# Altium integrated library Lattice ORCA Series 3.IntLib: 93 symbols (part 9 of 14)
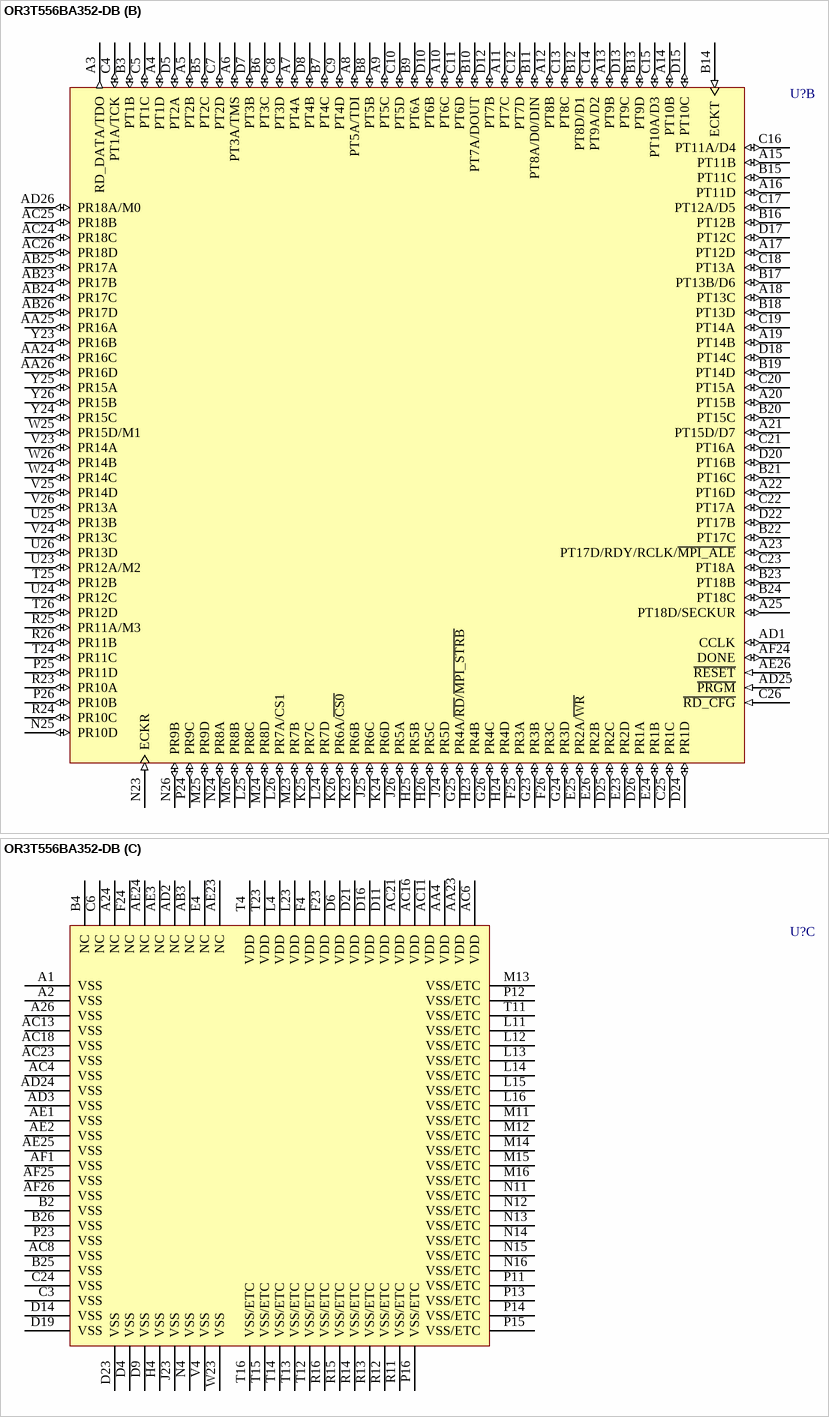
[diagram p144: symbol OR3T556BA352-DB]

## OR3T556BA352-DB
designator U?
ORCA Series 3T FPGA: 3.3 V, Commercial Grade, 292 I/Os.; PinConnectionRecommendation: Ground array of 'VSS-ETC' pins for enhanced thermal capability or leave unconnected.; Published: 21-May-2003; LatestRevisionDate: 13-Apr-2006; LatestRevisionNote: IPC-7351 Footprint Added.; DatasheetVersion: Dec-2002; PackageVersion: pkg_32, Aug-2005; PackageReference: BGA388; Publisher: Altium Limited; PackageDescription: 388-Ball Ball Grid Array (BGA388); ComponentLink1Description: Manufacturer Link; ComponentLink1URL: http://www.latticesemi.com/products/fpga/orca/orca3/index.cfm; ComponentLink2Description: Datasheet; ComponentLink2URL: http://www.latticesemi.com/account/_download.cfm?AMID=3974; ComponentLink3Description: Lattice Login; ComponentLink3URL: http://www.latticesemi.com/account/login.cfm
footprint BGA388 (BGA, 388-Leads, Body 35x35mm, Pitch 1.27mm)
3D model OR3T55-BGA388 (388-Ball Ball Grid Array (BGA388))
part A pins: AA1 PL16A (io), AA2 PL16C (io), AA3 PL17A (io), AB1 PL17B (io), AB2 PL17C (io), AB4 PL18C/SECKLL (io), AC1 PL18B (io), AC2 PL18D (io), AC3 PL18A/A15 (io), AC5 PB2C (io), AC7 PB3C (io), AC9 PB5B (io), AC10 PB7B (io), AC12 PB9B (io), AC14 PB10B (io), AC15 PB12C (io), AC17 PB13C (io), AC19 PB15C (io), AC20 PB16C (io), AC22 PB18A (io), AD4 PB1D (io), AD5 PB2D (io), AD6 PB3D/A17 (io), AD7 PB4D (io), AD8 PB5D (io), AD9 PB6D (io), AD10 PB7D (io), AD11 PB8D (io), AD12 PB9D (io), AD13 PB10D (io), AD14 PB11B (io), AD15 PB12A/HDC (io), AD16 PB13A/~{LDC} (io), AD17 PB14A (io), AD18 PB15A/~{INIT} (io), AD19 PB16A (io), AD20 PB17A (io), AD21 PB17D (io), AD22 PB18C (io), AD23 PB18D (io), AE4 PB1C (io), AE5 PB2B (io), AE6 PB3B (io), AE7 PB4B (io), AE8 PB5A (io), AE9 PB6A (io), AE10 PB6C (io), AE11 PB7C (io), AE12 PB8B (io), AE13 PB9A (io), AE14 ECKB (in), AE15 PB11A (io), AE16 PB11D (io), AE17 PB12D (io), AE18 PB13D (io), AE19 PB14C (io), AE20 PB15B (io), AE21 PB16B (io), AE22 PB17B (io), AF2 PB1A/A16 (io), AF3 PB1B (io), AF4 PB2A (io), AF5 PB3A (io), AF6 PB4A (io), AF7 PB4C (io), AF8 PB5C (io), AF9 PB6B (io), AF10 PB7A (io), AF11 PB8A (io), AF12 PB8C (io), AF13 PB9C (io), AF14 PB10C (io), AF15 PB11C (io), AF16 PB12B (io), AF17 PB13B (io), AF18 PB14B (io), AF19 PB14D (io), AF20 PB15D (io), AF21 PB16D (io), AF22 PB17C (io), AF23 PB18B (io), B1 PL1D (io), C1 PL1B (io), C2 PL1C (io), D1 PL2C (io), D2 PL1A (io), D3 PL2D/A0/~{MPI_BE0} (io), E1 PL3D (io), E2 PL2B (io), E3 PL2A (io), F1 PL4D (io), F2 PL3C (io), F3 PL3A (io), G1 PL4B (io), G2 PL4C (io), G3 PL4A/A1/~{MPI_BE1} (io), G4 PL3B (io), H1 PL5B (io), H2 PL5D (io), H3 PL5A/A2 (io), J1 PL6C (io), J2 PL6D (io), J3 PL6A/A3 (io), J4 PL5C (io), K1 PL7D (io), K2 PL6B (io), K3 PL7A/A4 (io), K4 PL7C (io), L1 PL8D/A5 (io), L2 PL7B (io), L3 PL8A/A6 (io), M1 PL8B (io), M2 PL8C (io), M3 PL9A/A7/MPI_CLK (io), M4 PL9C (io), N1 PL9B (io), N2 ECKL (in), N3 PL10A/A8/MPI_RW (io), P1 PL10B (io), P2 PL10D (io), P3 PL11C (io), P4 PL10C (io), R1 PL11B (io), R2 PL11D/A9/~{MPI_ACK} (io), R3 PL12D (io), R4 PL12B (io), T1 PL12C (io), T2 PL11A/A10/~{MPI_BI} (io), T3 PL13D/A12 (io), U1 PL13C (io), U2 PL12A/A11/~{MPI_IRQ} (io), U3 PL14D (io), U4 PL13B (io), V1 PL14C (io), V2 PL13A (io), V3 PL15D (io), W1 PL14A (io), W2 PL14B/A13 (io), W3 PL16D/A14 (io), W4 PL15B (io), Y1 PL15A (io), Y2 PL15C (io), Y3 PL17D (io), Y4 PL16B (io)
part B pins: A3 RD_DATA/TDO (out), A4 PT1D (io), A5 PT2B (io), A6 PT3A/TMS (io), A7 PT4A (io), A8 PT5A/TDI (io), A9 PT5C (io), A10 PT6C (io), A11 PT7C (io), A12 PT8B (io), A13 PT9B (io), A14 PT10B (io), A15 PT11B (io), A16 PT11D (io), A17 PT12D (io), A18 PT13C (io), A19 PT14B (io), A20 PT15B (io), A21 PT15D/D7 (io), A22 PT16D (io), A23 PT17D/RDY/RCLK/~{MPI_ALE} (io), A25 PT18D/SECKUR (io), AA24 PR16C (io), AA25 PR16A (io), AA26 PR16D (io), AB23 PR17B (io), AB24 PR17C (io), AB25 PR17A (io), AB26 PR17D (io), AC24 PR18C (io), AC25 PR18B (io), AC26 PR18D (io), AD1 CCLK (io), AD25 ~{PRGM} (in), AD26 PR18A/M0 (io), AE26 ~{RESET} (in), AF24 DONE (io), B3 PT1B (io), B5 PT2C (io), B6 PT3C (io), B7 PT4C (io), B8 PT5B (io), B9 PT6A (io), B10 PT7A/DOUT (io), B11 PT8A/D0/DIN (io), B12 PT8D/D1 (io), B13 PT9D (io), B14 ECKT (in), B15 PT11C (io), B16 PT12B (io), B17 PT13B/D6 (io), B18 PT13D (io), B19 PT14D (io), B20 PT15C (io), B21 PT16C (io), B22 PT17C (io), B23 PT18B (io), B24 PT18C (io), C4 PT1A/TCK (io), C5 PT1C (io), C7 PT2D (io), C8 PT3D (io), C9 PT4D (io), C10 PT5D (io), C11 PT6D (io), C12 PT7D (io), C13 PT8C (io), C14 PT9A/D2 (io), C15 PT10A/D3 (io), C16 PT11A/D4 (io), C17 PT12A/D5 (io), C18 PT13A (io), C19 PT14A (io), C20 PT15A (io), C21 PT16A (io), C22 PT17A (io), C23 PT18A (io), C25 PR1C (io), C26 ~{RD_CFG} (in), D5 PT2A (io), D7 PT3B (io), D8 PT4B (io), D10 PT6B (io), D12 PT7B (io), D13 PT9C (io), D15 PT10C (io), D17 PT12C (io), D18 PT14C (io), D20 PT16B (io), D22 PT17B (io), D24 PR1D (io), D25 PR2C (io), D26 PR1A (io), E23 PR2D (io), E24 PR1B (io), E25 PR2A/~{WR} (io), E26 PR2B (io), F25 PR3A (io), F26 PR3C (io), G23 PR3B (io), G24 PR3D (io), G25 PR4A/~{RD}/~{MPI_STRB} (io), G26 PR4C (io), H23 PR4B (io), H24 PR4D (io), H25 PR5B (io), H26 PR5C (io), J24 PR5D (io), J25 PR6C (io), J26 PR5A (io), K23 PR6B (io), K24 PR6D (io), K25 PR7C (io), K26 PR6A/~{CS0} (io), L24 PR7D (io), L25 PR8C (io), L26 PR7A/CS1 (io), M23 PR7B (io), M24 PR8D (io), M25 PR9D (io), M26 PR8B (io), N23 ECKR (in), N24 PR8A (io), N25 PR10D (io), N26 PR9B (io), P24 PR9C (io), P25 PR11D (io), P26 PR10B (io), R23 PR10A (io), R24 PR10C (io), R25 PR11A/M3 (io), R26 PR11B (io), T24 PR11C (io), T25 PR12B (io), T26 PR12D (io), U23 PR12A/M2 (io), U24 PR12C (io), U25 PR13B (io), U26 PR13D (io), V23 PR14A (io), V24 PR13C (io), V25 PR14D (io), V26 PR13A (io), W24 PR14C (io), W25 PR15D/M1 (io), W26 PR14B (io), Y23 PR16B (io), Y24 PR15C (io), Y25 PR15A (io), Y26 PR15B (io)
part C pins: A1 VSS (power), A2 VSS (power), A24 NC, A26 VSS (power), AA4 VDD (power), AA23 VDD (power), AB3 NC, AC4 VSS (power), AC6 VDD (power), AC8 VSS (power), AC11 VDD (power), AC13 VSS (power), AC16 VDD (power), AC18 VSS (power), AC21 VDD (power), AC23 VSS (power), AD2 NC, AD3 VSS (power), AD24 VSS (power), AE1 VSS (power), AE2 VSS (power), AE3 NC, AE23 NC, AE24 NC, AE25 VSS (power), AF1 VSS (power), AF25 VSS (power), AF26 VSS (power), B2 VSS (power), B4 NC, B25 VSS (power), B26 VSS (power), C3 VSS (power), C6 NC, C24 VSS (power), D4 VSS (power), D6 VDD (power), D9 VSS (power), D11 VDD (power), D14 VSS (power), D16 VDD (power), D19 VSS (power), D21 VDD (power), D23 VSS (power), E4 NC, F4 VDD (power), F23 VDD (power), F24 NC, H4 VSS (power), J23 VSS (power), L4 VDD (power), L11 VSS/ETC (power), L12 VSS/ETC (power), L13 VSS/ETC (power), L14 VSS/ETC (power), L15 VSS/ETC (power), L16 VSS/ETC (power), L23 VDD (power), M11 VSS/ETC (power), M12 VSS/ETC (power), M13 VSS/ETC (power), M14 VSS/ETC (power), M15 VSS/ETC (power), M16 VSS/ETC (power), N4 VSS (power), N11 VSS/ETC (power), N12 VSS/ETC (power), N13 VSS/ETC (power), N14 VSS/ETC (power), N15 VSS/ETC (power), N16 VSS/ETC (power), P11 VSS/ETC (power), P12 VSS/ETC (power), P13 VSS/ETC (power), P14 VSS/ETC (power), P15 VSS/ETC (power), P16 VSS/ETC (power), P23 VSS (power), R11 VSS/ETC (power), R12 VSS/ETC (power), R13 VSS/ETC (power), R14 VSS/ETC (power), R15 VSS/ETC (power), R16 VSS/ETC (power), T4 VDD (power), T11 VSS/ETC (power), T12 VSS/ETC (power), T13 VSS/ETC (power), T14 VSS/ETC (power), T15 VSS/ETC (power), T16 VSS/ETC (power), T23 VDD (power), V4 VSS (power), W23 VSS (power)

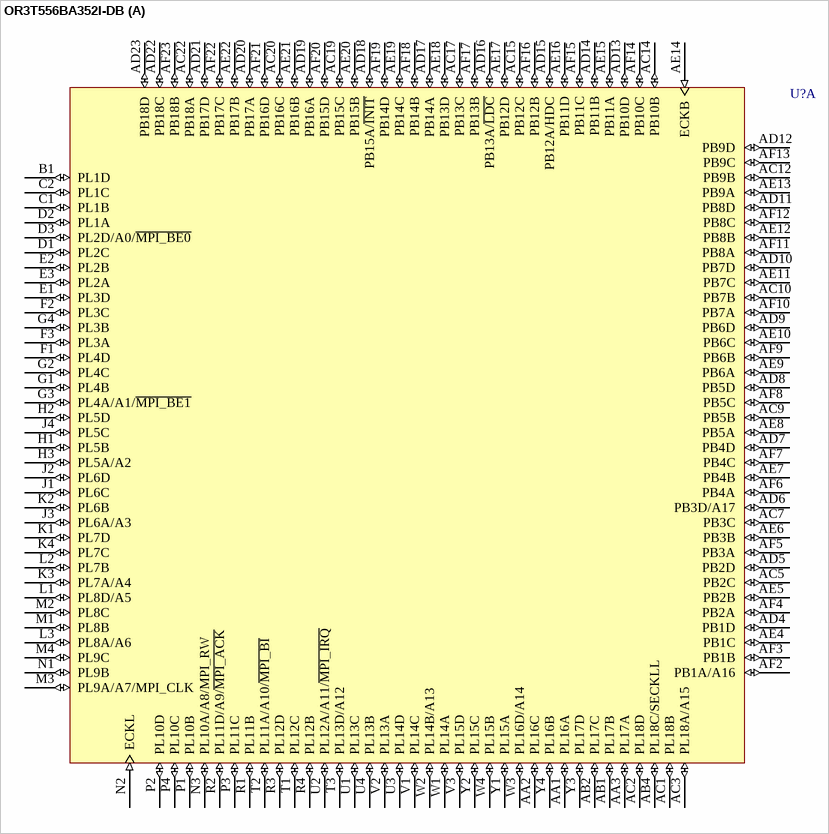
[diagram p86: symbol OR3T556BA352I-DB]

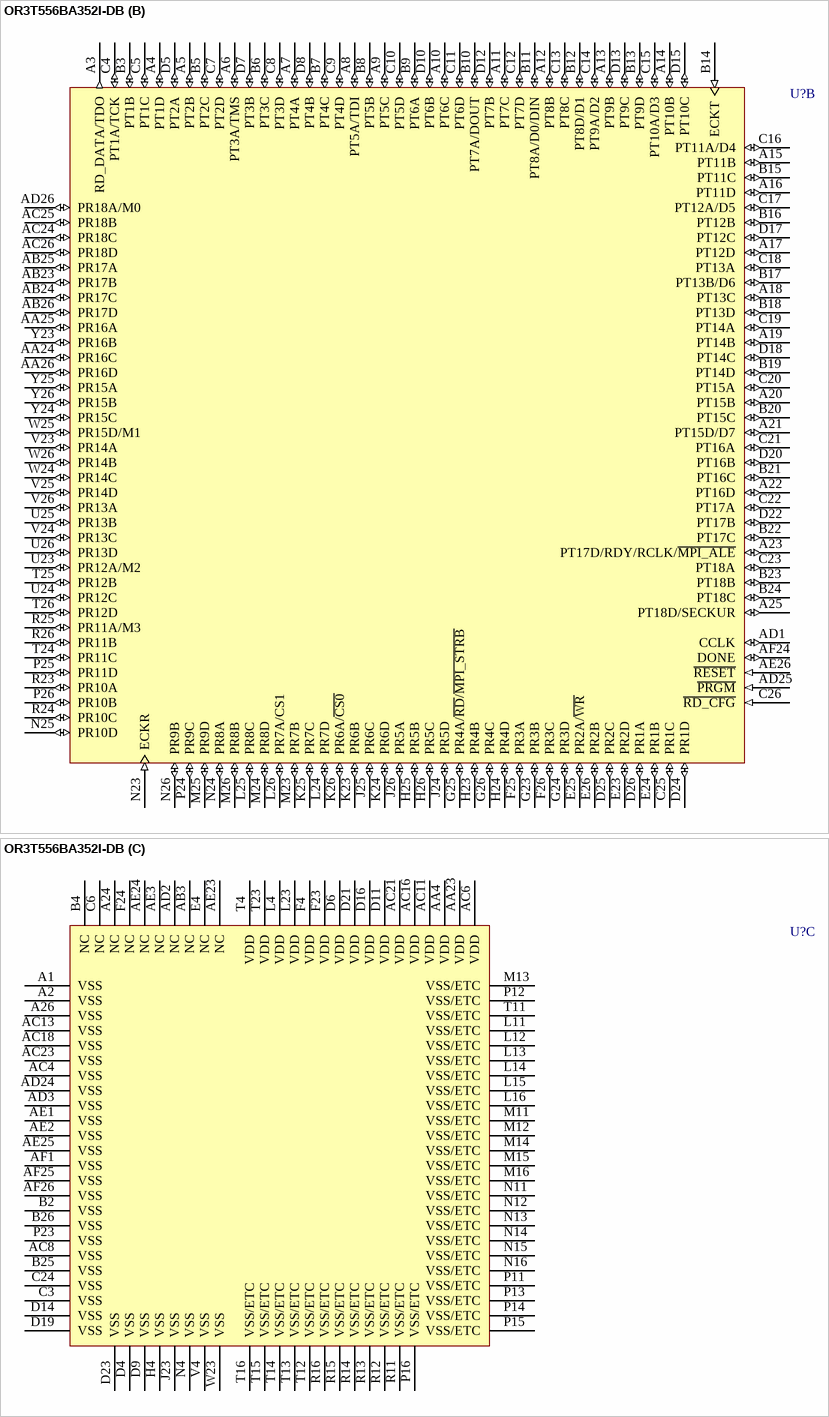
[diagram p87: symbol OR3T556BA352I-DB]

## OR3T556BA352I-DB
designator U?
ORCA Series 3T FPGA: 3.3 V, Industrial Grade, 292 I/Os.; PinConnectionRecommendation: Ground array of 'VSS-ETC' pins for enhanced thermal capability or leave unconnected.; Published: 21-May-2003; LatestRevisionDate: 13-Apr-2006; LatestRevisionNote: IPC-7351 Footprint Added.; DatasheetVersion: Dec-2002; PackageVersion: pkg_32, Aug-2005; PackageReference: BGA388; Publisher: Altium Limited; PackageDescription: 388-Ball Ball Grid Array (BGA388); ComponentLink1Description: Manufacturer Link; ComponentLink1URL: http://www.latticesemi.com/products/fpga/orca/orca3/index.cfm; ComponentLink2Description: Datasheet; ComponentLink2URL: http://www.latticesemi.com/account/_download.cfm?AMID=3974; ComponentLink3Description: Lattice Login; ComponentLink3URL: http://www.latticesemi.com/account/login.cfm
footprint BGA388 (BGA, 388-Leads, Body 35x35mm, Pitch 1.27mm)
3D model OR3T55-BGA388 (388-Ball Ball Grid Array (BGA388))
part A pins: AA1 PL16A (io), AA2 PL16C (io), AA3 PL17A (io), AB1 PL17B (io), AB2 PL17C (io), AB4 PL18C/SECKLL (io), AC1 PL18B (io), AC2 PL18D (io), AC3 PL18A/A15 (io), AC5 PB2C (io), AC7 PB3C (io), AC9 PB5B (io), AC10 PB7B (io), AC12 PB9B (io), AC14 PB10B (io), AC15 PB12C (io), AC17 PB13C (io), AC19 PB15C (io), AC20 PB16C (io), AC22 PB18A (io), AD4 PB1D (io), AD5 PB2D (io), AD6 PB3D/A17 (io), AD7 PB4D (io), AD8 PB5D (io), AD9 PB6D (io), AD10 PB7D (io), AD11 PB8D (io), AD12 PB9D (io), AD13 PB10D (io), AD14 PB11B (io), AD15 PB12A/HDC (io), AD16 PB13A/~{LDC} (io), AD17 PB14A (io), AD18 PB15A/~{INIT} (io), AD19 PB16A (io), AD20 PB17A (io), AD21 PB17D (io), AD22 PB18C (io), AD23 PB18D (io), AE4 PB1C (io), AE5 PB2B (io), AE6 PB3B (io), AE7 PB4B (io), AE8 PB5A (io), AE9 PB6A (io), AE10 PB6C (io), AE11 PB7C (io), AE12 PB8B (io), AE13 PB9A (io), AE14 ECKB (in), AE15 PB11A (io), AE16 PB11D (io), AE17 PB12D (io), AE18 PB13D (io), AE19 PB14C (io), AE20 PB15B (io), AE21 PB16B (io), AE22 PB17B (io), AF2 PB1A/A16 (io), AF3 PB1B (io), AF4 PB2A (io), AF5 PB3A (io), AF6 PB4A (io), AF7 PB4C (io), AF8 PB5C (io), AF9 PB6B (io), AF10 PB7A (io), AF11 PB8A (io), AF12 PB8C (io), AF13 PB9C (io), AF14 PB10C (io), AF15 PB11C (io), AF16 PB12B (io), AF17 PB13B (io), AF18 PB14B (io), AF19 PB14D (io), AF20 PB15D (io), AF21 PB16D (io), AF22 PB17C (io), AF23 PB18B (io), B1 PL1D (io), C1 PL1B (io), C2 PL1C (io), D1 PL2C (io), D2 PL1A (io), D3 PL2D/A0/~{MPI_BE0} (io), E1 PL3D (io), E2 PL2B (io), E3 PL2A (io), F1 PL4D (io), F2 PL3C (io), F3 PL3A (io), G1 PL4B (io), G2 PL4C (io), G3 PL4A/A1/~{MPI_BE1} (io), G4 PL3B (io), H1 PL5B (io), H2 PL5D (io), H3 PL5A/A2 (io), J1 PL6C (io), J2 PL6D (io), J3 PL6A/A3 (io), J4 PL5C (io), K1 PL7D (io), K2 PL6B (io), K3 PL7A/A4 (io), K4 PL7C (io), L1 PL8D/A5 (io), L2 PL7B (io), L3 PL8A/A6 (io), M1 PL8B (io), M2 PL8C (io), M3 PL9A/A7/MPI_CLK (io), M4 PL9C (io), N1 PL9B (io), N2 ECKL (in), N3 PL10A/A8/MPI_RW (io), P1 PL10B (io), P2 PL10D (io), P3 PL11C (io), P4 PL10C (io), R1 PL11B (io), R2 PL11D/A9/~{MPI_ACK} (io), R3 PL12D (io), R4 PL12B (io), T1 PL12C (io), T2 PL11A/A10/~{MPI_BI} (io), T3 PL13D/A12 (io), U1 PL13C (io), U2 PL12A/A11/~{MPI_IRQ} (io), U3 PL14D (io), U4 PL13B (io), V1 PL14C (io), V2 PL13A (io), V3 PL15D (io), W1 PL14A (io), W2 PL14B/A13 (io), W3 PL16D/A14 (io), W4 PL15B (io), Y1 PL15A (io), Y2 PL15C (io), Y3 PL17D (io), Y4 PL16B (io)
part B pins: A3 RD_DATA/TDO (out), A4 PT1D (io), A5 PT2B (io), A6 PT3A/TMS (io), A7 PT4A (io), A8 PT5A/TDI (io), A9 PT5C (io), A10 PT6C (io), A11 PT7C (io), A12 PT8B (io), A13 PT9B (io), A14 PT10B (io), A15 PT11B (io), A16 PT11D (io), A17 PT12D (io), A18 PT13C (io), A19 PT14B (io), A20 PT15B (io), A21 PT15D/D7 (io), A22 PT16D (io), A23 PT17D/RDY/RCLK/~{MPI_ALE} (io), A25 PT18D/SECKUR (io), AA24 PR16C (io), AA25 PR16A (io), AA26 PR16D (io), AB23 PR17B (io), AB24 PR17C (io), AB25 PR17A (io), AB26 PR17D (io), AC24 PR18C (io), AC25 PR18B (io), AC26 PR18D (io), AD1 CCLK (io), AD25 ~{PRGM} (in), AD26 PR18A/M0 (io), AE26 ~{RESET} (in), AF24 DONE (io), B3 PT1B (io), B5 PT2C (io), B6 PT3C (io), B7 PT4C (io), B8 PT5B (io), B9 PT6A (io), B10 PT7A/DOUT (io), B11 PT8A/D0/DIN (io), B12 PT8D/D1 (io), B13 PT9D (io), B14 ECKT (in), B15 PT11C (io), B16 PT12B (io), B17 PT13B/D6 (io), B18 PT13D (io), B19 PT14D (io), B20 PT15C (io), B21 PT16C (io), B22 PT17C (io), B23 PT18B (io), B24 PT18C (io), C4 PT1A/TCK (io), C5 PT1C (io), C7 PT2D (io), C8 PT3D (io), C9 PT4D (io), C10 PT5D (io), C11 PT6D (io), C12 PT7D (io), C13 PT8C (io), C14 PT9A/D2 (io), C15 PT10A/D3 (io), C16 PT11A/D4 (io), C17 PT12A/D5 (io), C18 PT13A (io), C19 PT14A (io), C20 PT15A (io), C21 PT16A (io), C22 PT17A (io), C23 PT18A (io), C25 PR1C (io), C26 ~{RD_CFG} (in), D5 PT2A (io), D7 PT3B (io), D8 PT4B (io), D10 PT6B (io), D12 PT7B (io), D13 PT9C (io), D15 PT10C (io), D17 PT12C (io), D18 PT14C (io), D20 PT16B (io), D22 PT17B (io), D24 PR1D (io), D25 PR2C (io), D26 PR1A (io), E23 PR2D (io), E24 PR1B (io), E25 PR2A/~{WR} (io), E26 PR2B (io), F25 PR3A (io), F26 PR3C (io), G23 PR3B (io), G24 PR3D (io), G25 PR4A/~{RD}/~{MPI_STRB} (io), G26 PR4C (io), H23 PR4B (io), H24 PR4D (io), H25 PR5B (io), H26 PR5C (io), J24 PR5D (io), J25 PR6C (io), J26 PR5A (io), K23 PR6B (io), K24 PR6D (io), K25 PR7C (io), K26 PR6A/~{CS0} (io), L24 PR7D (io), L25 PR8C (io), L26 PR7A/CS1 (io), M23 PR7B (io), M24 PR8D (io), M25 PR9D (io), M26 PR8B (io), N23 ECKR (in), N24 PR8A (io), N25 PR10D (io), N26 PR9B (io), P24 PR9C (io), P25 PR11D (io), P26 PR10B (io), R23 PR10A (io), R24 PR10C (io), R25 PR11A/M3 (io), R26 PR11B (io), T24 PR11C (io), T25 PR12B (io), T26 PR12D (io), U23 PR12A/M2 (io), U24 PR12C (io), U25 PR13B (io), U26 PR13D (io), V23 PR14A (io), V24 PR13C (io), V25 PR14D (io), V26 PR13A (io), W24 PR14C (io), W25 PR15D/M1 (io), W26 PR14B (io), Y23 PR16B (io), Y24 PR15C (io), Y25 PR15A (io), Y26 PR15B (io)
part C pins: A1 VSS (power), A2 VSS (power), A24 NC, A26 VSS (power), AA4 VDD (power), AA23 VDD (power), AB3 NC, AC4 VSS (power), AC6 VDD (power), AC8 VSS (power), AC11 VDD (power), AC13 VSS (power), AC16 VDD (power), AC18 VSS (power), AC21 VDD (power), AC23 VSS (power), AD2 NC, AD3 VSS (power), AD24 VSS (power), AE1 VSS (power), AE2 VSS (power), AE3 NC, AE23 NC, AE24 NC, AE25 VSS (power), AF1 VSS (power), AF25 VSS (power), AF26 VSS (power), B2 VSS (power), B4 NC, B25 VSS (power), B26 VSS (power), C3 VSS (power), C6 NC, C24 VSS (power), D4 VSS (power), D6 VDD (power), D9 VSS (power), D11 VDD (power), D14 VSS (power), D16 VDD (power), D19 VSS (power), D21 VDD (power), D23 VSS (power), E4 NC, F4 VDD (power), F23 VDD (power), F24 NC, H4 VSS (power), J23 VSS (power), L4 VDD (power), L11 VSS/ETC (power), L12 VSS/ETC (power), L13 VSS/ETC (power), L14 VSS/ETC (power), L15 VSS/ETC (power), L16 VSS/ETC (power), L23 VDD (power), M11 VSS/ETC (power), M12 VSS/ETC (power), M13 VSS/ETC (power), M14 VSS/ETC (power), M15 VSS/ETC (power), M16 VSS/ETC (power), N4 VSS (power), N11 VSS/ETC (power), N12 VSS/ETC (power), N13 VSS/ETC (power), N14 VSS/ETC (power), N15 VSS/ETC (power), N16 VSS/ETC (power), P11 VSS/ETC (power), P12 VSS/ETC (power), P13 VSS/ETC (power), P14 VSS/ETC (power), P15 VSS/ETC (power), P16 VSS/ETC (power), P23 VSS (power), R11 VSS/ETC (power), R12 VSS/ETC (power), R13 VSS/ETC (power), R14 VSS/ETC (power), R15 VSS/ETC (power), R16 VSS/ETC (power), T4 VDD (power), T11 VSS/ETC (power), T12 VSS/ETC (power), T13 VSS/ETC (power), T14 VSS/ETC (power), T15 VSS/ETC (power), T16 VSS/ETC (power), T23 VDD (power), V4 VSS (power), W23 VSS (power)

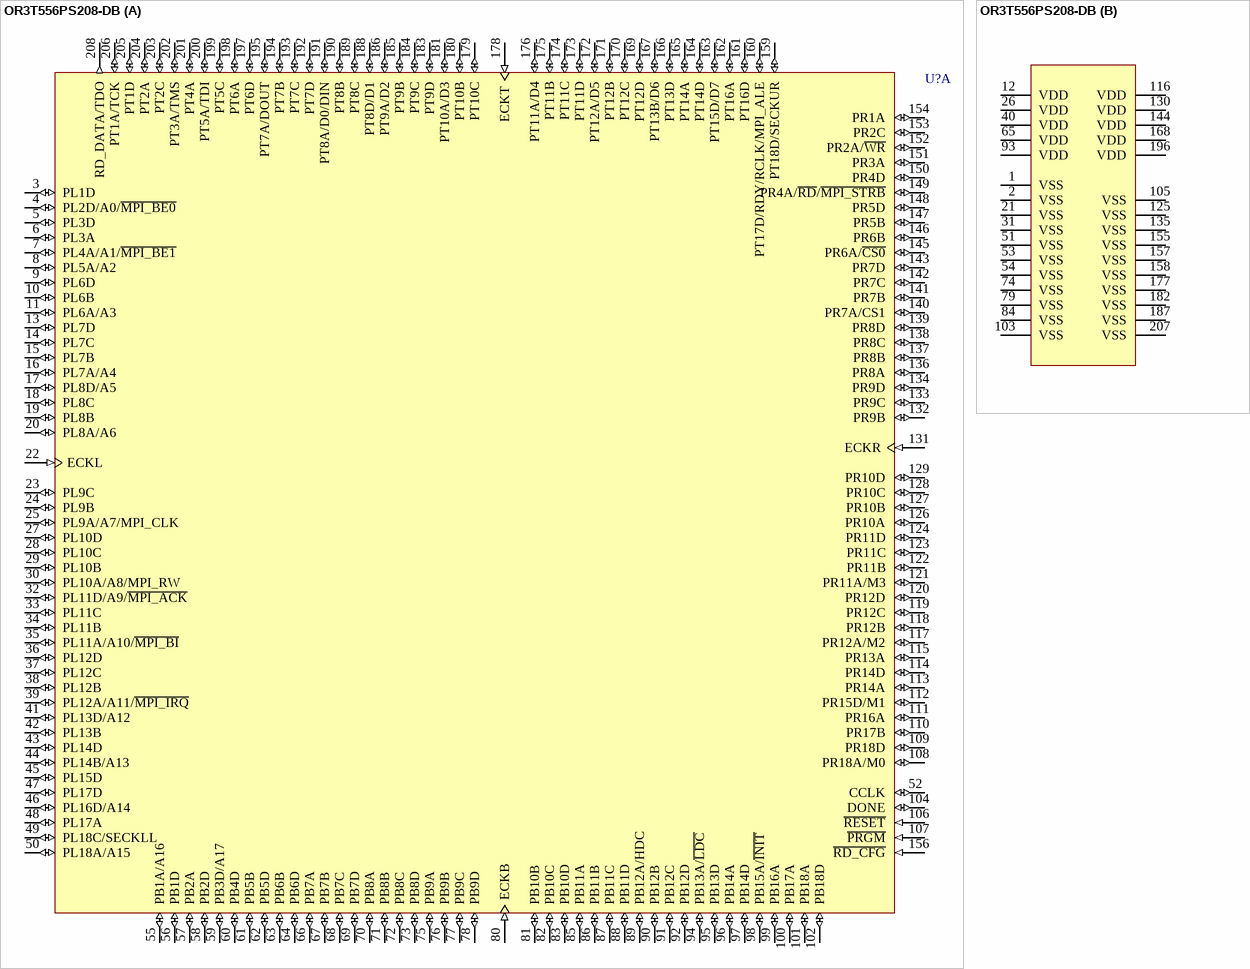
[diagram p88: symbol OR3T556PS208-DB]

## OR3T556PS208-DB
designator U?
ORCA Series 3T FPGA: 3.3 V, Commercial Grade, 292 I/Os.; Published: 21-May-2003; LatestRevisionDate: 13-Apr-2006; LatestRevisionNote: IPC-7351 Footprint Added.; DatasheetVersion: Dec-2002; PackageVersion: pkg_32, Aug-2005; PackageReference: PQFP208; Publisher: Altium Limited; PackageDescription: 208-Pin Plastic Quad Flat Pack (PQFP208); Code_JEDEC: MO-143-FAI; ComponentLink1Description: Manufacturer Link; ComponentLink1URL: http://www.latticesemi.com/products/fpga/orca/orca3/index.cfm; ComponentLink2Description: Datasheet; ComponentLink2URL: http://www.latticesemi.com/account/_download.cfm?AMID=3974; ComponentLink3Description: Lattice Login; ComponentLink3URL: http://www.latticesemi.com/account/login.cfm
footprint PQFP208_N (Shrink QFP, 208-Leads, Body 28x28mm, Pitch 0.5mm, IPC Medium Density)
footprint PQFP208_L (Shrink QFP, 208-Leads, Body 28x28mm, Pitch 0.5mm, IPC High Density)
footprint PQFP208_M (Shrink QFP, 208-Leads, Body 28x28mm, Pitch 0.5mm, IPC Low Density)
3D model OR3T55-PQFP208 (208-Pin Plastic Quad Flat Pack (PQFP208))
part A pins: 3 PL1D (io), 4 PL2D/A0/~{MPI_BE0} (io), 5 PL3D (io), 6 PL3A (io), 7 PL4A/A1/~{MPI_BE1} (io), 8 PL5A/A2 (io), 9 PL6D (io), 10 PL6B (io), 11 PL6A/A3 (io), 13 PL7D (io), 14 PL7C (io), 15 PL7B (io), 16 PL7A/A4 (io), 17 PL8D/A5 (io), 18 PL8C (io), 19 PL8B (io), 20 PL8A/A6 (io), 22 ECKL (in), 23 PL9C (io), 24 PL9B (io), 25 PL9A/A7/MPI_CLK (io), 27 PL10D (io), 28 PL10C (io), 29 PL10B (io), 30 PL10A/A8/MPI_RW (io), 32 PL11D/A9/~{MPI_ACK} (io), 33 PL11C (io), 34 PL11B (io), 35 PL11A/A10/~{MPI_BI} (io), 36 PL12D (io), 37 PL12C (io), 38 PL12B (io), 39 PL12A/A11/~{MPI_IRQ} (io), 41 PL13D/A12 (io), 42 PL13B (io), 43 PL14D (io), 44 PL14B/A13 (io), 45 PL15D (io), 46 PL16D/A14 (io), 47 PL17D (io), 48 PL17A (io), 49 PL18C/SECKLL (io), 50 PL18A/A15 (io), 52 CCLK (io), 55 PB1A/A16 (io), 56 PB1D (io), 57 PB2A (io), 58 PB2D (io), 59 PB3D/A17 (io), 60 PB4D (io), 61 PB5B (io), 62 PB5D (io), 63 PB6B (io), 64 PB6D (io), 66 PB7A (io), 67 PB7B (io), 68 PB7C (io), 69 PB7D (io), 70 PB8A (io), 71 PB8B (io), 72 PB8C (io), 73 PB8D (io), 75 PB9A (io), 76 PB9B (io), 77 PB9C (io), 78 PB9D (io), 80 ECKB (in), 81 PB10B (io), 82 PB10C (io), 83 PB10D (io), 85 PB11A (io), 86 PB11B (io), 87 PB11C (io), 88 PB11D (io), 89 PB12A/HDC (io), 90 PB12B (io), 91 PB12C (io), 92 PB12D (io), 94 PB13A/~{LDC} (io), 95 PB13D (io), 96 PB14A (io), 97 PB14D (io), 98 PB15A/~{INIT} (io), 99 PB16A (io), 100 PB17A (io), 101 PB18A (io), 102 PB18D (io), 104 DONE (io), 106 ~{RESET} (in), 107 ~{PRGM} (in), 108 PR18A/M0 (io), 109 PR18D (io), 110 PR17B (io), 111 PR16A (io), 112 PR15D/M1 (io), 113 PR14A (io), 114 PR14D (io), 115 PR13A (io), 117 PR12A/M2 (io), 118 PR12B (io), 119 PR12C (io), 120 PR12D (io), 121 PR11A/M3 (io), 122 PR11B (io), 123 PR11C (io), 124 PR11D (io), 126 PR10A (io), 127 PR10B (io), 128 PR10C (io), 129 PR10D (io), 131 ECKR (in), 132 PR9B (io), 133 PR9C (io), 134 PR9D (io), 136 PR8A (io), 137 PR8B (io), 138 PR8C (io), 139 PR8D (io), 140 PR7A/CS1 (io), 141 PR7B (io), 142 PR7C (io), 143 PR7D (io), 145 PR6A/~{CS0} (io), 146 PR6B (io), 147 PR5B (io), 148 PR5D (io), 149 PR4A/~{RD}/~{MPI_STRB} (io), 150 PR4D (io), 151 PR3A (io), 152 PR2A/~{WR} (io), 153 PR2C (io), 154 PR1A (io), 156 ~{RD_CFG} (in), 159 PT18D/SECKUR (io), 160 PT17D/RDY/RCLK/MPI_ALE (io), 161 PT16D (io), 162 PT16A (io), 163 PT15D/D7 (io), 164 PT14D (io), 165 PT14A (io), 166 PT13D (io), 167 PT13B/D6 (io), 169 PT12D (io), 170 PT12C (io), 171 PT12B (io), 172 PT12A/D5 (io), 173 PT11D (io), 174 PT11C (io), 175 PT11B (io), 176 PT11A/D4 (io), 178 ECKT (in), 179 PT10C (io), 180 PT10B (io), 181 PT10A/D3 (io), 183 PT9D (io), 184 PT9C (io), 185 PT9B (io), 186 PT9A/D2 (io), 188 PT8D/D1 (io), 189 PT8C (io), 190 PT8B (io), 191 PT8A/D0/DIN (io), 192 PT7D (io), 193 PT7C (io), 194 PT7B (io), 195 PT7A/DOUT (io), 197 PT6D (io), 198 PT6A (io), 199 PT5C (io), 200 PT5A/TDI (io), 201 PT4A (io), 202 PT3A/TMS (io), 203 PT2C (io), 204 PT2A (io), 205 PT1D (io), 206 PT1A/TCK (io), 208 RD_DATA/TDO (out)
part B pins: 1 VSS (power), 2 VSS (power), 12 VDD (power), 21 VSS (power), 26 VDD (power), 31 VSS (power), 40 VDD (power), 51 VSS (power), 53 VSS (power), 54 VSS (power), 65 VDD (power), 74 VSS (power), 79 VSS (power), 84 VSS (power), 93 VDD (power), 103 VSS (power), 105 VSS (power), 116 VDD (power), 125 VSS (power), 130 VDD (power), 135 VSS (power), 144 VDD (power), 155 VSS (power), 157 VSS (power), 158 VSS (power), 168 VDD (power), 177 VSS (power), 182 VSS (power), 187 VSS (power), 196 VDD (power), 207 VSS (power)

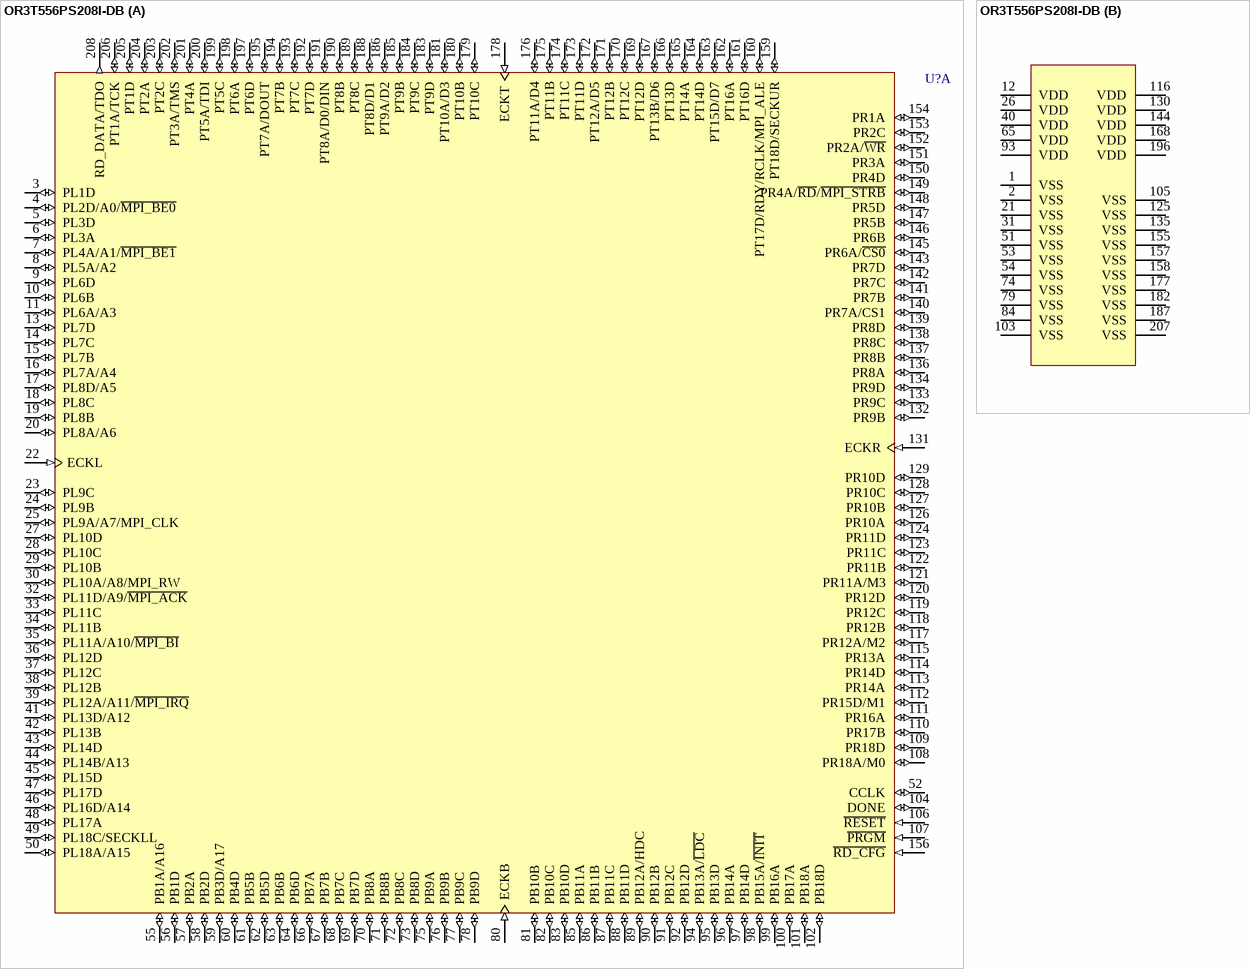
[diagram p89: symbol OR3T556PS208I-DB]

## OR3T556PS208I-DB
designator U?
ORCA Series 3T FPGA: 3.3 V, Industrial Grade, 292 I/Os.; Published: 21-May-2003; LatestRevisionDate: 13-Apr-2006; LatestRevisionNote: IPC-7351 Footprint Added.; DatasheetVersion: Dec-2002; PackageVersion: pkg_32, Aug-2005; PackageReference: PQFP208; Publisher: Altium Limited; PackageDescription: 208-Pin Plastic Quad Flat Pack (PQFP208); Code_JEDEC: MO-143-FAI; ComponentLink1Description: Manufacturer Link; ComponentLink1URL: http://www.latticesemi.com/products/fpga/orca/orca3/index.cfm; ComponentLink2Description: Datasheet; ComponentLink2URL: http://www.latticesemi.com/account/_download.cfm?AMID=3974; ComponentLink3Description: Lattice Login; ComponentLink3URL: http://www.latticesemi.com/account/login.cfm
footprint PQFP208_N (Shrink QFP, 208-Leads, Body 28x28mm, Pitch 0.5mm, IPC Medium Density)
footprint PQFP208_L (Shrink QFP, 208-Leads, Body 28x28mm, Pitch 0.5mm, IPC High Density)
footprint PQFP208_M (Shrink QFP, 208-Leads, Body 28x28mm, Pitch 0.5mm, IPC Low Density)
3D model OR3T55-PQFP208 (208-Pin Plastic Quad Flat Pack (PQFP208))
part A pins: 3 PL1D (io), 4 PL2D/A0/~{MPI_BE0} (io), 5 PL3D (io), 6 PL3A (io), 7 PL4A/A1/~{MPI_BE1} (io), 8 PL5A/A2 (io), 9 PL6D (io), 10 PL6B (io), 11 PL6A/A3 (io), 13 PL7D (io), 14 PL7C (io), 15 PL7B (io), 16 PL7A/A4 (io), 17 PL8D/A5 (io), 18 PL8C (io), 19 PL8B (io), 20 PL8A/A6 (io), 22 ECKL (in), 23 PL9C (io), 24 PL9B (io), 25 PL9A/A7/MPI_CLK (io), 27 PL10D (io), 28 PL10C (io), 29 PL10B (io), 30 PL10A/A8/MPI_RW (io), 32 PL11D/A9/~{MPI_ACK} (io), 33 PL11C (io), 34 PL11B (io), 35 PL11A/A10/~{MPI_BI} (io), 36 PL12D (io), 37 PL12C (io), 38 PL12B (io), 39 PL12A/A11/~{MPI_IRQ} (io), 41 PL13D/A12 (io), 42 PL13B (io), 43 PL14D (io), 44 PL14B/A13 (io), 45 PL15D (io), 46 PL16D/A14 (io), 47 PL17D (io), 48 PL17A (io), 49 PL18C/SECKLL (io), 50 PL18A/A15 (io), 52 CCLK (io), 55 PB1A/A16 (io), 56 PB1D (io), 57 PB2A (io), 58 PB2D (io), 59 PB3D/A17 (io), 60 PB4D (io), 61 PB5B (io), 62 PB5D (io), 63 PB6B (io), 64 PB6D (io), 66 PB7A (io), 67 PB7B (io), 68 PB7C (io), 69 PB7D (io), 70 PB8A (io), 71 PB8B (io), 72 PB8C (io), 73 PB8D (io), 75 PB9A (io), 76 PB9B (io), 77 PB9C (io), 78 PB9D (io), 80 ECKB (in), 81 PB10B (io), 82 PB10C (io), 83 PB10D (io), 85 PB11A (io), 86 PB11B (io), 87 PB11C (io), 88 PB11D (io), 89 PB12A/HDC (io), 90 PB12B (io), 91 PB12C (io), 92 PB12D (io), 94 PB13A/~{LDC} (io), 95 PB13D (io), 96 PB14A (io), 97 PB14D (io), 98 PB15A/~{INIT} (io), 99 PB16A (io), 100 PB17A (io), 101 PB18A (io), 102 PB18D (io), 104 DONE (io), 106 ~{RESET} (in), 107 ~{PRGM} (in), 108 PR18A/M0 (io), 109 PR18D (io), 110 PR17B (io), 111 PR16A (io), 112 PR15D/M1 (io), 113 PR14A (io), 114 PR14D (io), 115 PR13A (io), 117 PR12A/M2 (io), 118 PR12B (io), 119 PR12C (io), 120 PR12D (io), 121 PR11A/M3 (io), 122 PR11B (io), 123 PR11C (io), 124 PR11D (io), 126 PR10A (io), 127 PR10B (io), 128 PR10C (io), 129 PR10D (io), 131 ECKR (in), 132 PR9B (io), 133 PR9C (io), 134 PR9D (io), 136 PR8A (io), 137 PR8B (io), 138 PR8C (io), 139 PR8D (io), 140 PR7A/CS1 (io), 141 PR7B (io), 142 PR7C (io), 143 PR7D (io), 145 PR6A/~{CS0} (io), 146 PR6B (io), 147 PR5B (io), 148 PR5D (io), 149 PR4A/~{RD}/~{MPI_STRB} (io), 150 PR4D (io), 151 PR3A (io), 152 PR2A/~{WR} (io), 153 PR2C (io), 154 PR1A (io), 156 ~{RD_CFG} (in), 159 PT18D/SECKUR (io), 160 PT17D/RDY/RCLK/MPI_ALE (io), 161 PT16D (io), 162 PT16A (io), 163 PT15D/D7 (io), 164 PT14D (io), 165 PT14A (io), 166 PT13D (io), 167 PT13B/D6 (io), 169 PT12D (io), 170 PT12C (io), 171 PT12B (io), 172 PT12A/D5 (io), 173 PT11D (io), 174 PT11C (io), 175 PT11B (io), 176 PT11A/D4 (io), 178 ECKT (in), 179 PT10C (io), 180 PT10B (io), 181 PT10A/D3 (io), 183 PT9D (io), 184 PT9C (io), 185 PT9B (io), 186 PT9A/D2 (io), 188 PT8D/D1 (io), 189 PT8C (io), 190 PT8B (io), 191 PT8A/D0/DIN (io), 192 PT7D (io), 193 PT7C (io), 194 PT7B (io), 195 PT7A/DOUT (io), 197 PT6D (io), 198 PT6A (io), 199 PT5C (io), 200 PT5A/TDI (io), 201 PT4A (io), 202 PT3A/TMS (io), 203 PT2C (io), 204 PT2A (io), 205 PT1D (io), 206 PT1A/TCK (io), 208 RD_DATA/TDO (out)
part B pins: 1 VSS (power), 2 VSS (power), 12 VDD (power), 21 VSS (power), 26 VDD (power), 31 VSS (power), 40 VDD (power), 51 VSS (power), 53 VSS (power), 54 VSS (power), 65 VDD (power), 74 VSS (power), 79 VSS (power), 84 VSS (power), 93 VDD (power), 103 VSS (power), 105 VSS (power), 116 VDD (power), 125 VSS (power), 130 VDD (power), 135 VSS (power), 144 VDD (power), 155 VSS (power), 157 VSS (power), 158 VSS (power), 168 VDD (power), 177 VSS (power), 182 VSS (power), 187 VSS (power), 196 VDD (power), 207 VSS (power)

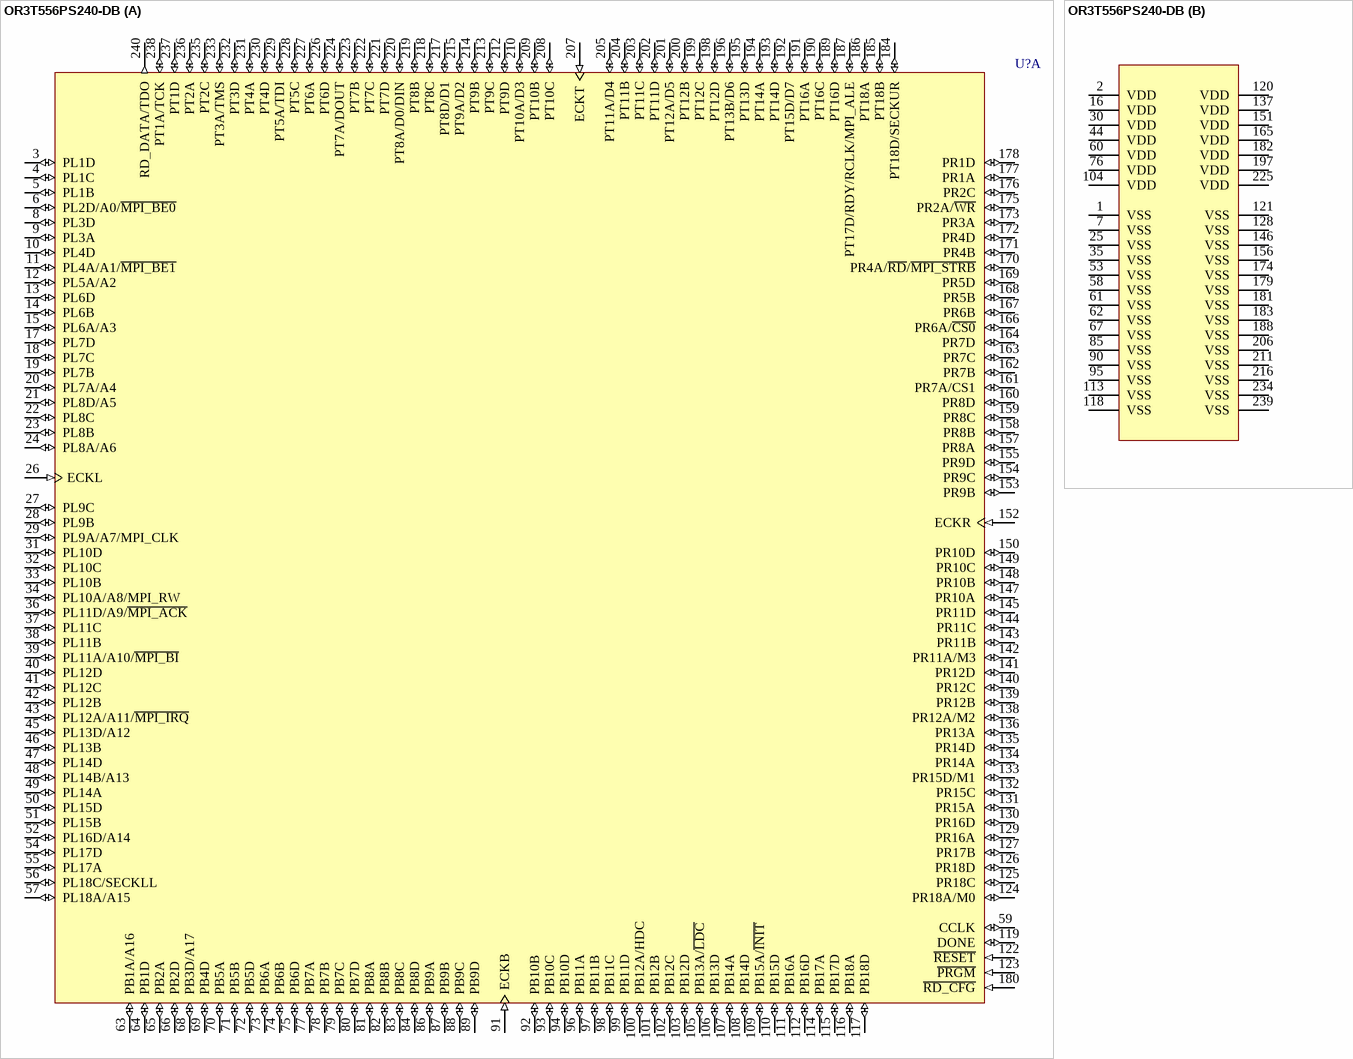
[diagram p90: symbol OR3T556PS240-DB]

## OR3T556PS240-DB
designator U?
ORCA Series 3T FPGA: 3.3 V, Commercial Grade, 292 I/Os.; Published: 21-May-2003; LatestRevisionDate: 13-Apr-2006; LatestRevisionNote: IPC-7351 Footprint Added.; DatasheetVersion: Dec-2002; PackageVersion: pkg_32, Aug-2005; PackageReference: PQFP240; Publisher: Altium Limited; PackageDescription: 240-Pin Shrink Quad Flat Pack 0.5 mm Pitch; ComponentLink1Description: Manufacturer Link; ComponentLink1URL: http://www.latticesemi.com/products/fpga/orca/orca3/index.cfm; ComponentLink2Description: Datasheet; ComponentLink2URL: http://www.latticesemi.com/account/_download.cfm?AMID=3974; ComponentLink3Description: Lattice Login; ComponentLink3URL: http://www.latticesemi.com/account/login.cfm
footprint PQFP240_N (Shrink QFP, 240-Leads, Body 32x32mm, Pitch 0.5mm, IPC Medium Density)
footprint PQFP240_L (Shrink QFP, 240-Leads, Body 32x32mm, Pitch 0.5mm, IPC High Density)
footprint PQFP240_M (Shrink QFP, 240-Leads, Body 32x32mm, Pitch 0.5mm, IPC Low Density)
3D model OR3T55-PQFP240 (240-Pin Shrink Quad Flat Pack 0.5 mm Pitch)
part A pins: 3 PL1D (io), 4 PL1C (io), 5 PL1B (io), 6 PL2D/A0/~{MPI_BE0} (io), 8 PL3D (io), 9 PL3A (io), 10 PL4D (io), 11 PL4A/A1/~{MPI_BE1} (io), 12 PL5A/A2 (io), 13 PL6D (io), 14 PL6B (io), 15 PL6A/A3 (io), 17 PL7D (io), 18 PL7C (io), 19 PL7B (io), 20 PL7A/A4 (io), 21 PL8D/A5 (io), 22 PL8C (io), 23 PL8B (io), 24 PL8A/A6 (io), 26 ECKL (in), 27 PL9C (io), 28 PL9B (io), 29 PL9A/A7/MPI_CLK (io), 31 PL10D (io), 32 PL10C (io), 33 PL10B (io), 34 PL10A/A8/MPI_RW (io), 36 PL11D/A9/~{MPI_ACK} (io), 37 PL11C (io), 38 PL11B (io), 39 PL11A/A10/~{MPI_BI} (io), 40 PL12D (io), 41 PL12C (io), 42 PL12B (io), 43 PL12A/A11/~{MPI_IRQ} (io), 45 PL13D/A12 (io), 46 PL13B (io), 47 PL14D (io), 48 PL14B/A13 (io), 49 PL14A (io), 50 PL15D (io), 51 PL15B (io), 52 PL16D/A14 (io), 54 PL17D (io), 55 PL17A (io), 56 PL18C/SECKLL (io), 57 PL18A/A15 (io), 59 CCLK (io), 63 PB1A/A16 (io), 64 PB1D (io), 65 PB2A (io), 66 PB2D (io), 68 PB3D/A17 (io), 69 PB4D (io), 70 PB5A (io), 71 PB5B (io), 72 PB5D (io), 73 PB6A (io), 74 PB6B (io), 75 PB6D (io), 77 PB7A (io), 78 PB7B (io), 79 PB7C (io), 80 PB7D (io), 81 PB8A (io), 82 PB8B (io), 83 PB8C (io), 84 PB8D (io), 86 PB9A (io), 87 PB9B (io), 88 PB9C (io), 89 PB9D (io), 91 ECKB (in), 92 PB10B (io), 93 PB10C (io), 94 PB10D (io), 96 PB11A (io), 97 PB11B (io), 98 PB11C (io), 99 PB11D (io), 100 PB12A/HDC (io), 101 PB12B (io), 102 PB12C (io), 103 PB12D (io), 105 PB13A/~{LDC} (io), 106 PB13D (io), 107 PB14A (io), 108 PB14D (io), 109 PB15A/~{INIT} (io), 110 PB15D (io), 111 PB16A (io), 112 PB16D (io), 114 PB17A (io), 115 PB17D (io), 116 PB18A (io), 117 PB18D (io), 119 DONE (io), 122 ~{RESET} (in), 123 ~{PRGM} (in), 124 PR18A/M0 (io), 125 PR18C (io), 126 PR18D (io), 127 PR17B (io), 129 PR16A (io), 130 PR16D (io), 131 PR15A (io), 132 PR15C (io), 133 PR15D/M1 (io), 134 PR14A (io), 135 PR14D (io), 136 PR13A (io), 138 PR12A/M2 (io), 139 PR12B (io), 140 PR12C (io), 141 PR12D (io), 142 PR11A/M3 (io), 143 PR11B (io), 144 PR11C (io), 145 PR11D (io), 147 PR10A (io), 148 PR10B (io), 149 PR10C (io), 150 PR10D (io), 152 ECKR (in), 153 PR9B (io), 154 PR9C (io), 155 PR9D (io), 157 PR8A (io), 158 PR8B (io), 159 PR8C (io), 160 PR8D (io), 161 PR7A/CS1 (io), 162 PR7B (io), 163 PR7C (io), 164 PR7D (io), 166 PR6A/~{CS0} (io), 167 PR6B (io), 168 PR5B (io), 169 PR5D (io), 170 PR4A/~{RD}/~{MPI_STRB} (io), 171 PR4B (io), 172 PR4D (io), 173 PR3A (io), 175 PR2A/~{WR} (io), 176 PR2C (io), 177 PR1A (io), 178 PR1D (io), 180 ~{RD_CFG} (in), 184 PT18D/SECKUR (io), 185 PT18B (io), 186 PT18A (io), 187 PT17D/RDY/RCLK/MPI_ALE (io), 189 PT16D (io), 190 PT16C (io), 191 PT16A (io), 192 PT15D/D7 (io), 193 PT14D (io), 194 PT14A (io), 195 PT13D (io), 196 PT13B/D6 (io), 198 PT12D (io), 199 PT12C (io), 200 PT12B (io), 201 PT12A/D5 (io), 202 PT11D (io), 203 PT11C (io), 204 PT11B (io), 205 PT11A/D4 (io), 207 ECKT (in), 208 PT10C (io), 209 PT10B (io), 210 PT10A/D3 (io), 212 PT9D (io), 213 PT9C (io), 214 PT9B (io), 215 PT9A/D2 (io), 217 PT8D/D1 (io), 218 PT8C (io), 219 PT8B (io), 220 PT8A/D0/DIN (io), 221 PT7D (io), 222 PT7C (io), 223 PT7B (io), 224 PT7A/DOUT (io), 226 PT6D (io), 227 PT6A (io), 228 PT5C (io), 229 PT5A/TDI (io), 230 PT4D (io), 231 PT4A (io), 232 PT3D (io), 233 PT3A/TMS (io), 235 PT2C (io), 236 PT2A (io), 237 PT1D (io), 238 PT1A/TCK (io), 240 RD_DATA/TDO (out)
part B pins: 1 VSS (power), 2 VDD (power), 7 VSS (power), 16 VDD (power), 25 VSS (power), 30 VDD (power), 35 VSS (power), 44 VDD (power), 53 VSS (power), 58 VSS (power), 60 VDD (power), 61 VSS (power), 62 VSS (power), 67 VSS (power), 76 VDD (power), 85 VSS (power), 90 VSS (power), 95 VSS (power), 104 VDD (power), 113 VSS (power), 118 VSS (power), 120 VDD (power), 121 VSS (power), 128 VSS (power), 137 VDD (power), 146 VSS (power), 151 VDD (power), 156 VSS (power), 165 VDD (power), 174 VSS (power), 179 VSS (power), 181 VSS (power), 182 VDD (power), 183 VSS (power), 188 VSS (power), 197 VDD (power), 206 VSS (power), 211 VSS (power), 216 VSS (power), 225 VDD (power), 234 VSS (power), 239 VSS (power)

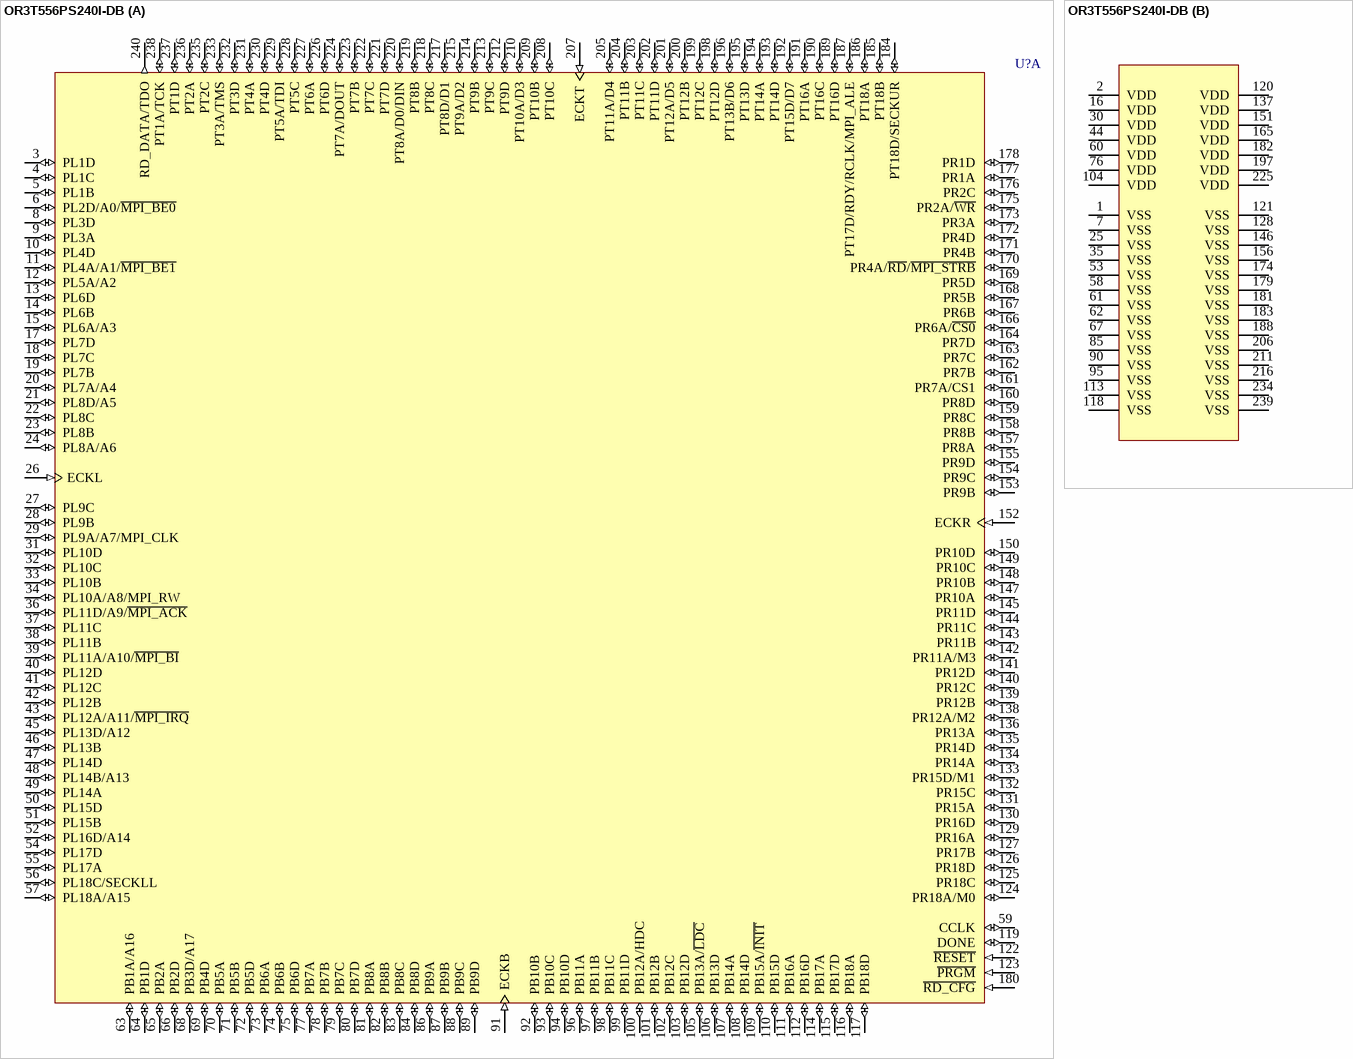
[diagram p91: symbol OR3T556PS240I-DB]

## OR3T556PS240I-DB
designator U?
ORCA Series 3T FPGA: 3.3 V, Industrial Grade, 292 I/Os.; Published: 21-May-2003; LatestRevisionDate: 13-Apr-2006; LatestRevisionNote: IPC-7351 Footprint Added.; DatasheetVersion: Dec-2002; PackageVersion: pkg_32, Aug-2005; PackageReference: PQFP240; Publisher: Altium Limited; PackageDescription: 240-Pin Shrink Quad Flat Pack 0.5 mm Pitch; ComponentLink1Description: Manufacturer Link; ComponentLink1URL: http://www.latticesemi.com/products/fpga/orca/orca3/index.cfm; ComponentLink2Description: Datasheet; ComponentLink2URL: http://www.latticesemi.com/account/_download.cfm?AMID=3974; ComponentLink3Description: Lattice Login; ComponentLink3URL: http://www.latticesemi.com/account/login.cfm
footprint PQFP240_N (Shrink QFP, 240-Leads, Body 32x32mm, Pitch 0.5mm, IPC Medium Density)
footprint PQFP240_L (Shrink QFP, 240-Leads, Body 32x32mm, Pitch 0.5mm, IPC High Density)
footprint PQFP240_M (Shrink QFP, 240-Leads, Body 32x32mm, Pitch 0.5mm, IPC Low Density)
3D model OR3T55-PQFP240 (240-Pin Shrink Quad Flat Pack 0.5 mm Pitch)
part A pins: 3 PL1D (io), 4 PL1C (io), 5 PL1B (io), 6 PL2D/A0/~{MPI_BE0} (io), 8 PL3D (io), 9 PL3A (io), 10 PL4D (io), 11 PL4A/A1/~{MPI_BE1} (io), 12 PL5A/A2 (io), 13 PL6D (io), 14 PL6B (io), 15 PL6A/A3 (io), 17 PL7D (io), 18 PL7C (io), 19 PL7B (io), 20 PL7A/A4 (io), 21 PL8D/A5 (io), 22 PL8C (io), 23 PL8B (io), 24 PL8A/A6 (io), 26 ECKL (in), 27 PL9C (io), 28 PL9B (io), 29 PL9A/A7/MPI_CLK (io), 31 PL10D (io), 32 PL10C (io), 33 PL10B (io), 34 PL10A/A8/MPI_RW (io), 36 PL11D/A9/~{MPI_ACK} (io), 37 PL11C (io), 38 PL11B (io), 39 PL11A/A10/~{MPI_BI} (io), 40 PL12D (io), 41 PL12C (io), 42 PL12B (io), 43 PL12A/A11/~{MPI_IRQ} (io), 45 PL13D/A12 (io), 46 PL13B (io), 47 PL14D (io), 48 PL14B/A13 (io), 49 PL14A (io), 50 PL15D (io), 51 PL15B (io), 52 PL16D/A14 (io), 54 PL17D (io), 55 PL17A (io), 56 PL18C/SECKLL (io), 57 PL18A/A15 (io), 59 CCLK (io), 63 PB1A/A16 (io), 64 PB1D (io), 65 PB2A (io), 66 PB2D (io), 68 PB3D/A17 (io), 69 PB4D (io), 70 PB5A (io), 71 PB5B (io), 72 PB5D (io), 73 PB6A (io), 74 PB6B (io), 75 PB6D (io), 77 PB7A (io), 78 PB7B (io), 79 PB7C (io), 80 PB7D (io), 81 PB8A (io), 82 PB8B (io), 83 PB8C (io), 84 PB8D (io), 86 PB9A (io), 87 PB9B (io), 88 PB9C (io), 89 PB9D (io), 91 ECKB (in), 92 PB10B (io), 93 PB10C (io), 94 PB10D (io), 96 PB11A (io), 97 PB11B (io), 98 PB11C (io), 99 PB11D (io), 100 PB12A/HDC (io), 101 PB12B (io), 102 PB12C (io), 103 PB12D (io), 105 PB13A/~{LDC} (io), 106 PB13D (io), 107 PB14A (io), 108 PB14D (io), 109 PB15A/~{INIT} (io), 110 PB15D (io), 111 PB16A (io), 112 PB16D (io), 114 PB17A (io), 115 PB17D (io), 116 PB18A (io), 117 PB18D (io), 119 DONE (io), 122 ~{RESET} (in), 123 ~{PRGM} (in), 124 PR18A/M0 (io), 125 PR18C (io), 126 PR18D (io), 127 PR17B (io), 129 PR16A (io), 130 PR16D (io), 131 PR15A (io), 132 PR15C (io), 133 PR15D/M1 (io), 134 PR14A (io), 135 PR14D (io), 136 PR13A (io), 138 PR12A/M2 (io), 139 PR12B (io), 140 PR12C (io), 141 PR12D (io), 142 PR11A/M3 (io), 143 PR11B (io), 144 PR11C (io), 145 PR11D (io), 147 PR10A (io), 148 PR10B (io), 149 PR10C (io), 150 PR10D (io), 152 ECKR (in), 153 PR9B (io), 154 PR9C (io), 155 PR9D (io), 157 PR8A (io), 158 PR8B (io), 159 PR8C (io), 160 PR8D (io), 161 PR7A/CS1 (io), 162 PR7B (io), 163 PR7C (io), 164 PR7D (io), 166 PR6A/~{CS0} (io), 167 PR6B (io), 168 PR5B (io), 169 PR5D (io), 170 PR4A/~{RD}/~{MPI_STRB} (io), 171 PR4B (io), 172 PR4D (io), 173 PR3A (io), 175 PR2A/~{WR} (io), 176 PR2C (io), 177 PR1A (io), 178 PR1D (io), 180 ~{RD_CFG} (in), 184 PT18D/SECKUR (io), 185 PT18B (io), 186 PT18A (io), 187 PT17D/RDY/RCLK/MPI_ALE (io), 189 PT16D (io), 190 PT16C (io), 191 PT16A (io), 192 PT15D/D7 (io), 193 PT14D (io), 194 PT14A (io), 195 PT13D (io), 196 PT13B/D6 (io), 198 PT12D (io), 199 PT12C (io), 200 PT12B (io), 201 PT12A/D5 (io), 202 PT11D (io), 203 PT11C (io), 204 PT11B (io), 205 PT11A/D4 (io), 207 ECKT (in), 208 PT10C (io), 209 PT10B (io), 210 PT10A/D3 (io), 212 PT9D (io), 213 PT9C (io), 214 PT9B (io), 215 PT9A/D2 (io), 217 PT8D/D1 (io), 218 PT8C (io), 219 PT8B (io), 220 PT8A/D0/DIN (io), 221 PT7D (io), 222 PT7C (io), 223 PT7B (io), 224 PT7A/DOUT (io), 226 PT6D (io), 227 PT6A (io), 228 PT5C (io), 229 PT5A/TDI (io), 230 PT4D (io), 231 PT4A (io), 232 PT3D (io), 233 PT3A/TMS (io), 235 PT2C (io), 236 PT2A (io), 237 PT1D (io), 238 PT1A/TCK (io), 240 RD_DATA/TDO (out)
part B pins: 1 VSS (power), 2 VDD (power), 7 VSS (power), 16 VDD (power), 25 VSS (power), 30 VDD (power), 35 VSS (power), 44 VDD (power), 53 VSS (power), 58 VSS (power), 60 VDD (power), 61 VSS (power), 62 VSS (power), 67 VSS (power), 76 VDD (power), 85 VSS (power), 90 VSS (power), 95 VSS (power), 104 VDD (power), 113 VSS (power), 118 VSS (power), 120 VDD (power), 121 VSS (power), 128 VSS (power), 137 VDD (power), 146 VSS (power), 151 VDD (power), 156 VSS (power), 165 VDD (power), 174 VSS (power), 179 VSS (power), 181 VSS (power), 182 VDD (power), 183 VSS (power), 188 VSS (power), 197 VDD (power), 206 VSS (power), 211 VSS (power), 216 VSS (power), 225 VDD (power), 234 VSS (power), 239 VSS (power)

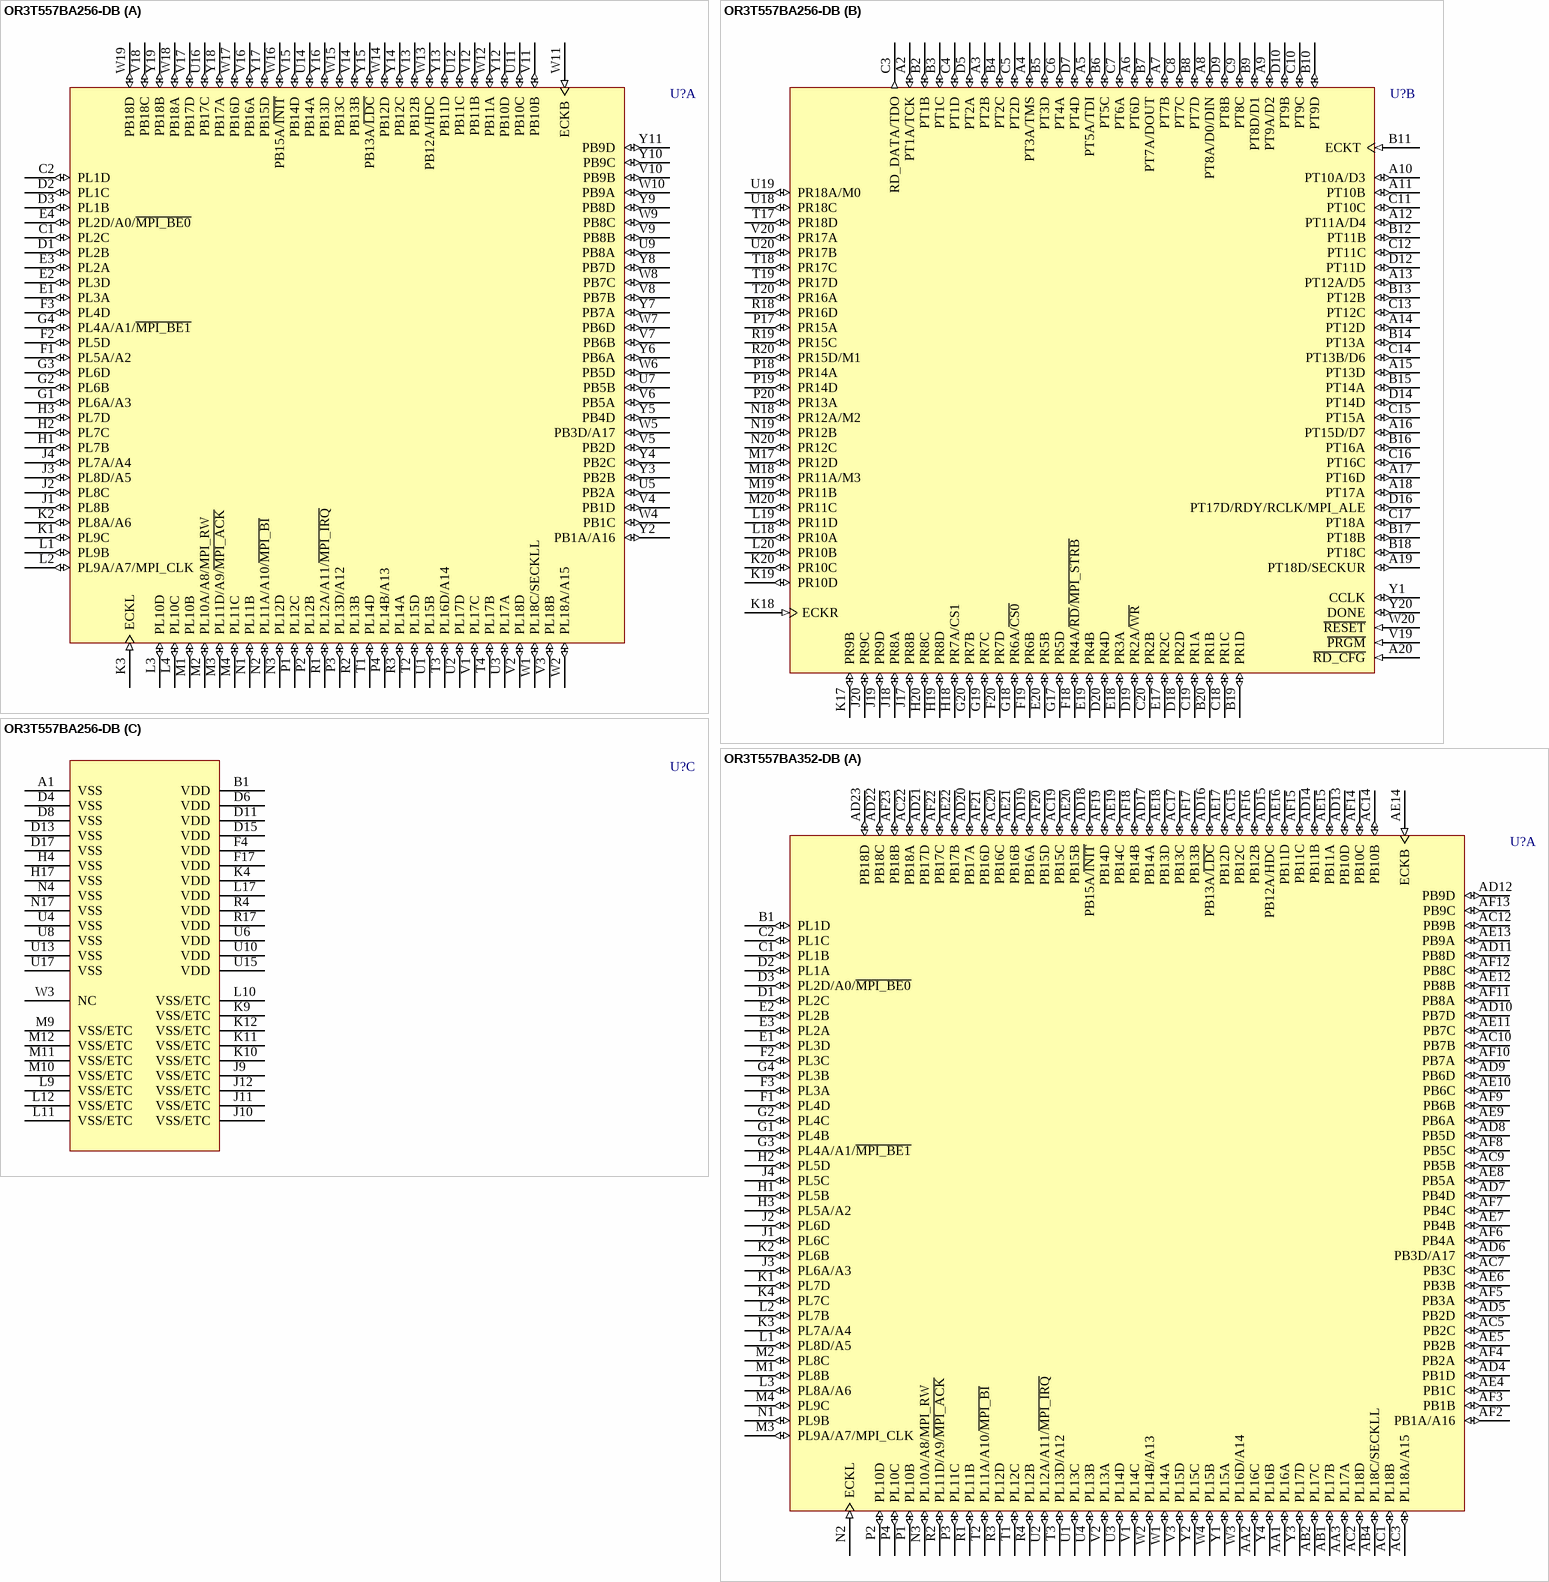
[diagram p92: symbols OR3T557BA256-DB to OR3T557BA352-DB]

## OR3T557BA256-DB
designator U?
ORCA Series 3T FPGA: 3.3 V, Commercial Grade, 292 I/Os.; PinConnectionRecommendation: Ground array of 'VSS-ETC' pins for enhanced thermal capability or leave unconnected.; Published: 21-May-2003; LatestRevisionDate: 13-Apr-2006; LatestRevisionNote: IPC-7351 Footprint Added.; DatasheetVersion: Dec-2002; PackageVersion: pkg_32, Aug-2005; PackageReference: BGA272; Publisher: Altium Limited; PackageDescription: 272-Ball Ball Grid Array (BGA272); ComponentLink1Description: Manufacturer Link; ComponentLink1URL: http://www.latticesemi.com/products/fpga/orca/orca3/index.cfm; ComponentLink2Description: Datasheet; ComponentLink2URL: http://www.latticesemi.com/account/_download.cfm?AMID=3974; ComponentLink3Description: Lattice Login; ComponentLink3URL: http://www.latticesemi.com/account/login.cfm
footprint BGA272 (BGA, 272-Leads, Body 27x27mm, Pitch 1.27mm)
3D model OR3T55-BGA272 (272-Ball Ball Grid Array (BGA272))
part A pins: C1 PL2C (io), C2 PL1D (io), D1 PL2B (io), D2 PL1C (io), D3 PL1B (io), E1 PL3A (io), E2 PL3D (io), E3 PL2A (io), E4 PL2D/A0/~{MPI_BE0} (io), F1 PL5A/A2 (io), F2 PL5D (io), F3 PL4D (io), G1 PL6A/A3 (io), G2 PL6B (io), G3 PL6D (io), G4 PL4A/A1/~{MPI_BE1} (io), H1 PL7B (io), H2 PL7C (io), H3 PL7D (io), J1 PL8B (io), J2 PL8C (io), J3 PL8D/A5 (io), J4 PL7A/A4 (io), K1 PL9C (io), K2 PL8A/A6 (io), K3 ECKL (in), L1 PL9B (io), L2 PL9A/A7/MPI_CLK (io), L3 PL10D (io), L4 PL10C (io), M1 PL10B (io), M2 PL10A/A8/MPI_RW (io), M3 PL11D/A9/~{MPI_ACK} (io), M4 PL11C (io), N1 PL11B (io), N2 PL11A/A10/~{MPI_BI} (io), N3 PL12D (io), P1 PL12C (io), P2 PL12B (io), P3 PL13D/A12 (io), P4 PL14B/A13 (io), R1 PL12A/A11/~{MPI_IRQ} (io), R2 PL13B (io), R3 PL14A (io), T1 PL14D (io), T2 PL15D (io), T3 PL16D/A14 (io), T4 PL17B (io), U1 PL15B (io), U2 PL17D (io), U3 PL17A (io), U5 PB2A (io), U7 PB5B (io), U9 PB8A (io), U11 PB10C (io), U12 PB11C (io), U14 PB14A (io), U16 PB17C (io), V1 PL17C (io), V2 PL18D (io), V3 PL18B (io), V4 PB1D (io), V5 PB2D (io), V6 PB5A (io), V7 PB6B (io), V8 PB7B (io), V9 PB8B (io), V10 PB9B (io), V11 PB10B (io), V12 PB11B (io), V13 PB12B (io), V14 PB13B (io), V15 PB14D (io), V16 PB16A (io), V17 PB17D (io), V18 PB18C (io), W1 PL18C/SECKLL (io), W2 PL18A/A15 (io), W4 PB1C (io), W5 PB3D/A17 (io), W6 PB5D (io), W7 PB6D (io), W8 PB7C (io), W9 PB8C (io), W10 PB9A (io), W11 ECKB (in), W12 PB11A (io), W13 PB12A/HDC (io), W14 PB12D (io), W15 PB13C (io), W16 PB15A/~{INIT} (io), W17 PB16D (io), W18 PB18A (io), W19 PB18D (io), Y2 PB1A/A16 (io), Y3 PB2B (io), Y4 PB2C (io), Y5 PB4D (io), Y6 PB6A (io), Y7 PB7A (io), Y8 PB7D (io), Y9 PB8D (io), Y10 PB9C (io), Y11 PB9D (io), Y12 PB10D (io), Y13 PB11D (io), Y14 PB12C (io), Y15 PB13A/~{LDC} (io), Y16 PB13D (io), Y17 PB15D (io), Y18 PB17A (io), Y19 PB18B (io)
part B pins: A2 PT1A/TCK (io), A3 PT2B (io), A4 PT3A/TMS (io), A5 PT5A/TDI (io), A6 PT6D (io), A7 PT7B (io), A8 PT8A/D0/DIN (io), A9 PT9A/D2 (io), A10 PT10A/D3 (io), A11 PT10B (io), A12 PT11A/D4 (io), A13 PT12A/D5 (io), A14 PT12D (io), A15 PT13D (io), A16 PT15D/D7 (io), A17 PT16D (io), A18 PT17A (io), A19 PT18D/SECKUR (io), A20 ~{RD_CFG} (in), B2 PT1B (io), B3 PT1C (io), B4 PT2C (io), B5 PT3D (io), B6 PT5C (io), B7 PT7A/DOUT (io), B8 PT7D (io), B9 PT8D/D1 (io), B10 PT9D (io), B11 ECKT (in), B12 PT11B (io), B13 PT12B (io), B14 PT13A (io), B15 PT14A (io), B16 PT16A (io), B17 PT18B (io), B18 PT18C (io), B19 PR1D (io), B20 PR1B (io), C3 RD_DATA/TDO (out), C4 PT1D (io), C5 PT2D (io), C6 PT4A (io), C7 PT6A (io), C8 PT7C (io), C9 PT8C (io), C10 PT9C (io), C11 PT10C (io), C12 PT11C (io), C13 PT12C (io), C14 PT13B/D6 (io), C15 PT15A (io), C16 PT16C (io), C17 PT18A (io), C18 PR1C (io), C19 PR1A (io), C20 PR2B (io), D5 PT2A (io), D7 PT4D (io), D9 PT8B (io), D10 PT9B (io), D12 PT11D (io), D14 PT14D (io), D16 PT17D/RDY/RCLK/MPI_ALE (io), D18 PR2D (io), D19 PR2A/~{WR} (io), D20 PR4D (io), E17 PR2C (io), E18 PR3A (io), E19 PR4B (io), E20 PR5B (io), F18 PR4A/~{RD}/~{MPI_STRB} (io), F19 PR6B (io), F20 PR7D (io), G17 PR5D (io), G18 PR6A/~{CS0} (io), G19 PR7C (io), G20 PR7B (io), H18 PR7A/CS1 (io), H19 PR8D (io), H20 PR8C (io), J17 PR8B (io), J18 PR8A (io), J19 PR9D (io), J20 PR9C (io), K17 PR9B (io), K18 ECKR (in), K19 PR10D (io), K20 PR10C (io), L18 PR10A (io), L19 PR11D (io), L20 PR10B (io), M17 PR12D (io), M18 PR11A/M3 (io), M19 PR11B (io), M20 PR11C (io), N18 PR12A/M2 (io), N19 PR12B (io), N20 PR12C (io), P17 PR15A (io), P18 PR14A (io), P19 PR14D (io), P20 PR13A (io), R18 PR16D (io), R19 PR15C (io), R20 PR15D/M1 (io), T17 PR18D (io), T18 PR17C (io), T19 PR17D (io), T20 PR16A (io), U18 PR18C (io), U19 PR18A/M0 (io), U20 PR17B (io), V19 ~{PRGM} (in), V20 PR17A (io), W20 ~{RESET} (in), Y1 CCLK (io), Y20 DONE (io)
part C pins: A1 VSS (power), B1 VDD (power), D4 VSS (power), D6 VDD (power), D8 VSS (power), D11 VDD (power), D13 VSS (power), D15 VDD (power), D17 VSS (power), F4 VDD (power), F17 VDD (power), H4 VSS (power), H17 VSS (power), J9 VSS/ETC (power), J10 VSS/ETC (power), J11 VSS/ETC (power), J12 VSS/ETC (power), K4 VDD (power), K9 VSS/ETC (power), K10 VSS/ETC (power), K11 VSS/ETC (power), K12 VSS/ETC (power), L9 VSS/ETC (power), L10 VSS/ETC (power), L11 VSS/ETC (power), L12 VSS/ETC (power), L17 VDD (power), M9 VSS/ETC (power), M10 VSS/ETC (power), M11 VSS/ETC (power), M12 VSS/ETC (power), N4 VSS (power), N17 VSS (power), R4 VDD (power), R17 VDD (power), U4 VSS (power), U6 VDD (power), U8 VSS (power), U10 VDD (power), U13 VSS (power), U15 VDD (power), U17 VSS (power), W3 NC

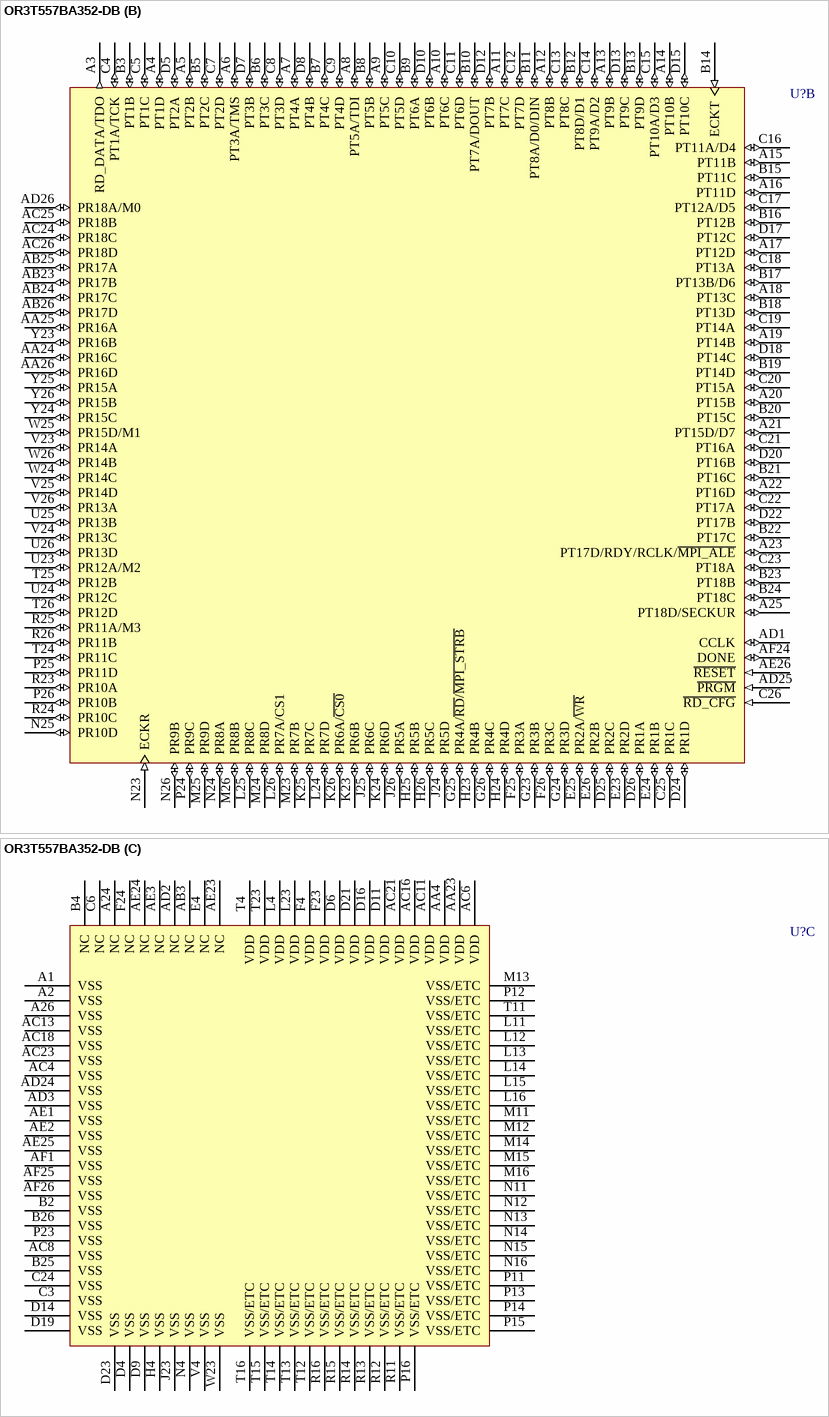
[diagram p93: symbol OR3T557BA352-DB]

## OR3T557BA352-DB
designator U?
ORCA Series 3T FPGA: 3.3 V, Commercial Grade, 292 I/Os.; PinConnectionRecommendation: Ground array of 'VSS-ETC' pins for enhanced thermal capability or leave unconnected.; Published: 21-May-2003; LatestRevisionDate: 13-Apr-2006; LatestRevisionNote: IPC-7351 Footprint Added.; DatasheetVersion: Dec-2002; PackageVersion: pkg_32, Aug-2005; PackageReference: BGA388; Publisher: Altium Limited; PackageDescription: 388-Ball Ball Grid Array (BGA388); ComponentLink1Description: Manufacturer Link; ComponentLink1URL: http://www.latticesemi.com/products/fpga/orca/orca3/index.cfm; ComponentLink2Description: Datasheet; ComponentLink2URL: http://www.latticesemi.com/account/_download.cfm?AMID=3974; ComponentLink3Description: Lattice Login; ComponentLink3URL: http://www.latticesemi.com/account/login.cfm
footprint BGA388 (BGA, 388-Leads, Body 35x35mm, Pitch 1.27mm)
3D model OR3T55-BGA388 (388-Ball Ball Grid Array (BGA388))
part A pins: AA1 PL16A (io), AA2 PL16C (io), AA3 PL17A (io), AB1 PL17B (io), AB2 PL17C (io), AB4 PL18C/SECKLL (io), AC1 PL18B (io), AC2 PL18D (io), AC3 PL18A/A15 (io), AC5 PB2C (io), AC7 PB3C (io), AC9 PB5B (io), AC10 PB7B (io), AC12 PB9B (io), AC14 PB10B (io), AC15 PB12C (io), AC17 PB13C (io), AC19 PB15C (io), AC20 PB16C (io), AC22 PB18A (io), AD4 PB1D (io), AD5 PB2D (io), AD6 PB3D/A17 (io), AD7 PB4D (io), AD8 PB5D (io), AD9 PB6D (io), AD10 PB7D (io), AD11 PB8D (io), AD12 PB9D (io), AD13 PB10D (io), AD14 PB11B (io), AD15 PB12A/HDC (io), AD16 PB13A/~{LDC} (io), AD17 PB14A (io), AD18 PB15A/~{INIT} (io), AD19 PB16A (io), AD20 PB17A (io), AD21 PB17D (io), AD22 PB18C (io), AD23 PB18D (io), AE4 PB1C (io), AE5 PB2B (io), AE6 PB3B (io), AE7 PB4B (io), AE8 PB5A (io), AE9 PB6A (io), AE10 PB6C (io), AE11 PB7C (io), AE12 PB8B (io), AE13 PB9A (io), AE14 ECKB (in), AE15 PB11A (io), AE16 PB11D (io), AE17 PB12D (io), AE18 PB13D (io), AE19 PB14C (io), AE20 PB15B (io), AE21 PB16B (io), AE22 PB17B (io), AF2 PB1A/A16 (io), AF3 PB1B (io), AF4 PB2A (io), AF5 PB3A (io), AF6 PB4A (io), AF7 PB4C (io), AF8 PB5C (io), AF9 PB6B (io), AF10 PB7A (io), AF11 PB8A (io), AF12 PB8C (io), AF13 PB9C (io), AF14 PB10C (io), AF15 PB11C (io), AF16 PB12B (io), AF17 PB13B (io), AF18 PB14B (io), AF19 PB14D (io), AF20 PB15D (io), AF21 PB16D (io), AF22 PB17C (io), AF23 PB18B (io), B1 PL1D (io), C1 PL1B (io), C2 PL1C (io), D1 PL2C (io), D2 PL1A (io), D3 PL2D/A0/~{MPI_BE0} (io), E1 PL3D (io), E2 PL2B (io), E3 PL2A (io), F1 PL4D (io), F2 PL3C (io), F3 PL3A (io), G1 PL4B (io), G2 PL4C (io), G3 PL4A/A1/~{MPI_BE1} (io), G4 PL3B (io), H1 PL5B (io), H2 PL5D (io), H3 PL5A/A2 (io), J1 PL6C (io), J2 PL6D (io), J3 PL6A/A3 (io), J4 PL5C (io), K1 PL7D (io), K2 PL6B (io), K3 PL7A/A4 (io), K4 PL7C (io), L1 PL8D/A5 (io), L2 PL7B (io), L3 PL8A/A6 (io), M1 PL8B (io), M2 PL8C (io), M3 PL9A/A7/MPI_CLK (io), M4 PL9C (io), N1 PL9B (io), N2 ECKL (in), N3 PL10A/A8/MPI_RW (io), P1 PL10B (io), P2 PL10D (io), P3 PL11C (io), P4 PL10C (io), R1 PL11B (io), R2 PL11D/A9/~{MPI_ACK} (io), R3 PL12D (io), R4 PL12B (io), T1 PL12C (io), T2 PL11A/A10/~{MPI_BI} (io), T3 PL13D/A12 (io), U1 PL13C (io), U2 PL12A/A11/~{MPI_IRQ} (io), U3 PL14D (io), U4 PL13B (io), V1 PL14C (io), V2 PL13A (io), V3 PL15D (io), W1 PL14A (io), W2 PL14B/A13 (io), W3 PL16D/A14 (io), W4 PL15B (io), Y1 PL15A (io), Y2 PL15C (io), Y3 PL17D (io), Y4 PL16B (io)
part B pins: A3 RD_DATA/TDO (out), A4 PT1D (io), A5 PT2B (io), A6 PT3A/TMS (io), A7 PT4A (io), A8 PT5A/TDI (io), A9 PT5C (io), A10 PT6C (io), A11 PT7C (io), A12 PT8B (io), A13 PT9B (io), A14 PT10B (io), A15 PT11B (io), A16 PT11D (io), A17 PT12D (io), A18 PT13C (io), A19 PT14B (io), A20 PT15B (io), A21 PT15D/D7 (io), A22 PT16D (io), A23 PT17D/RDY/RCLK/~{MPI_ALE} (io), A25 PT18D/SECKUR (io), AA24 PR16C (io), AA25 PR16A (io), AA26 PR16D (io), AB23 PR17B (io), AB24 PR17C (io), AB25 PR17A (io), AB26 PR17D (io), AC24 PR18C (io), AC25 PR18B (io), AC26 PR18D (io), AD1 CCLK (io), AD25 ~{PRGM} (in), AD26 PR18A/M0 (io), AE26 ~{RESET} (in), AF24 DONE (io), B3 PT1B (io), B5 PT2C (io), B6 PT3C (io), B7 PT4C (io), B8 PT5B (io), B9 PT6A (io), B10 PT7A/DOUT (io), B11 PT8A/D0/DIN (io), B12 PT8D/D1 (io), B13 PT9D (io), B14 ECKT (in), B15 PT11C (io), B16 PT12B (io), B17 PT13B/D6 (io), B18 PT13D (io), B19 PT14D (io), B20 PT15C (io), B21 PT16C (io), B22 PT17C (io), B23 PT18B (io), B24 PT18C (io), C4 PT1A/TCK (io), C5 PT1C (io), C7 PT2D (io), C8 PT3D (io), C9 PT4D (io), C10 PT5D (io), C11 PT6D (io), C12 PT7D (io), C13 PT8C (io), C14 PT9A/D2 (io), C15 PT10A/D3 (io), C16 PT11A/D4 (io), C17 PT12A/D5 (io), C18 PT13A (io), C19 PT14A (io), C20 PT15A (io), C21 PT16A (io), C22 PT17A (io), C23 PT18A (io), C25 PR1C (io), C26 ~{RD_CFG} (in), D5 PT2A (io), D7 PT3B (io), D8 PT4B (io), D10 PT6B (io), D12 PT7B (io), D13 PT9C (io), D15 PT10C (io), D17 PT12C (io), D18 PT14C (io), D20 PT16B (io), D22 PT17B (io), D24 PR1D (io), D25 PR2C (io), D26 PR1A (io), E23 PR2D (io), E24 PR1B (io), E25 PR2A/~{WR} (io), E26 PR2B (io), F25 PR3A (io), F26 PR3C (io), G23 PR3B (io), G24 PR3D (io), G25 PR4A/~{RD}/~{MPI_STRB} (io), G26 PR4C (io), H23 PR4B (io), H24 PR4D (io), H25 PR5B (io), H26 PR5C (io), J24 PR5D (io), J25 PR6C (io), J26 PR5A (io), K23 PR6B (io), K24 PR6D (io), K25 PR7C (io), K26 PR6A/~{CS0} (io), L24 PR7D (io), L25 PR8C (io), L26 PR7A/CS1 (io), M23 PR7B (io), M24 PR8D (io), M25 PR9D (io), M26 PR8B (io), N23 ECKR (in), N24 PR8A (io), N25 PR10D (io), N26 PR9B (io), P24 PR9C (io), P25 PR11D (io), P26 PR10B (io), R23 PR10A (io), R24 PR10C (io), R25 PR11A/M3 (io), R26 PR11B (io), T24 PR11C (io), T25 PR12B (io), T26 PR12D (io), U23 PR12A/M2 (io), U24 PR12C (io), U25 PR13B (io), U26 PR13D (io), V23 PR14A (io), V24 PR13C (io), V25 PR14D (io), V26 PR13A (io), W24 PR14C (io), W25 PR15D/M1 (io), W26 PR14B (io), Y23 PR16B (io), Y24 PR15C (io), Y25 PR15A (io), Y26 PR15B (io)
part C pins: A1 VSS (power), A2 VSS (power), A24 NC, A26 VSS (power), AA4 VDD (power), AA23 VDD (power), AB3 NC, AC4 VSS (power), AC6 VDD (power), AC8 VSS (power), AC11 VDD (power), AC13 VSS (power), AC16 VDD (power), AC18 VSS (power), AC21 VDD (power), AC23 VSS (power), AD2 NC, AD3 VSS (power), AD24 VSS (power), AE1 VSS (power), AE2 VSS (power), AE3 NC, AE23 NC, AE24 NC, AE25 VSS (power), AF1 VSS (power), AF25 VSS (power), AF26 VSS (power), B2 VSS (power), B4 NC, B25 VSS (power), B26 VSS (power), C3 VSS (power), C6 NC, C24 VSS (power), D4 VSS (power), D6 VDD (power), D9 VSS (power), D11 VDD (power), D14 VSS (power), D16 VDD (power), D19 VSS (power), D21 VDD (power), D23 VSS (power), E4 NC, F4 VDD (power), F23 VDD (power), F24 NC, H4 VSS (power), J23 VSS (power), L4 VDD (power), L11 VSS/ETC (power), L12 VSS/ETC (power), L13 VSS/ETC (power), L14 VSS/ETC (power), L15 VSS/ETC (power), L16 VSS/ETC (power), L23 VDD (power), M11 VSS/ETC (power), M12 VSS/ETC (power), M13 VSS/ETC (power), M14 VSS/ETC (power), M15 VSS/ETC (power), M16 VSS/ETC (power), N4 VSS (power), N11 VSS/ETC (power), N12 VSS/ETC (power), N13 VSS/ETC (power), N14 VSS/ETC (power), N15 VSS/ETC (power), N16 VSS/ETC (power), P11 VSS/ETC (power), P12 VSS/ETC (power), P13 VSS/ETC (power), P14 VSS/ETC (power), P15 VSS/ETC (power), P16 VSS/ETC (power), P23 VSS (power), R11 VSS/ETC (power), R12 VSS/ETC (power), R13 VSS/ETC (power), R14 VSS/ETC (power), R15 VSS/ETC (power), R16 VSS/ETC (power), T4 VDD (power), T11 VSS/ETC (power), T12 VSS/ETC (power), T13 VSS/ETC (power), T14 VSS/ETC (power), T15 VSS/ETC (power), T16 VSS/ETC (power), T23 VDD (power), V4 VSS (power), W23 VSS (power)

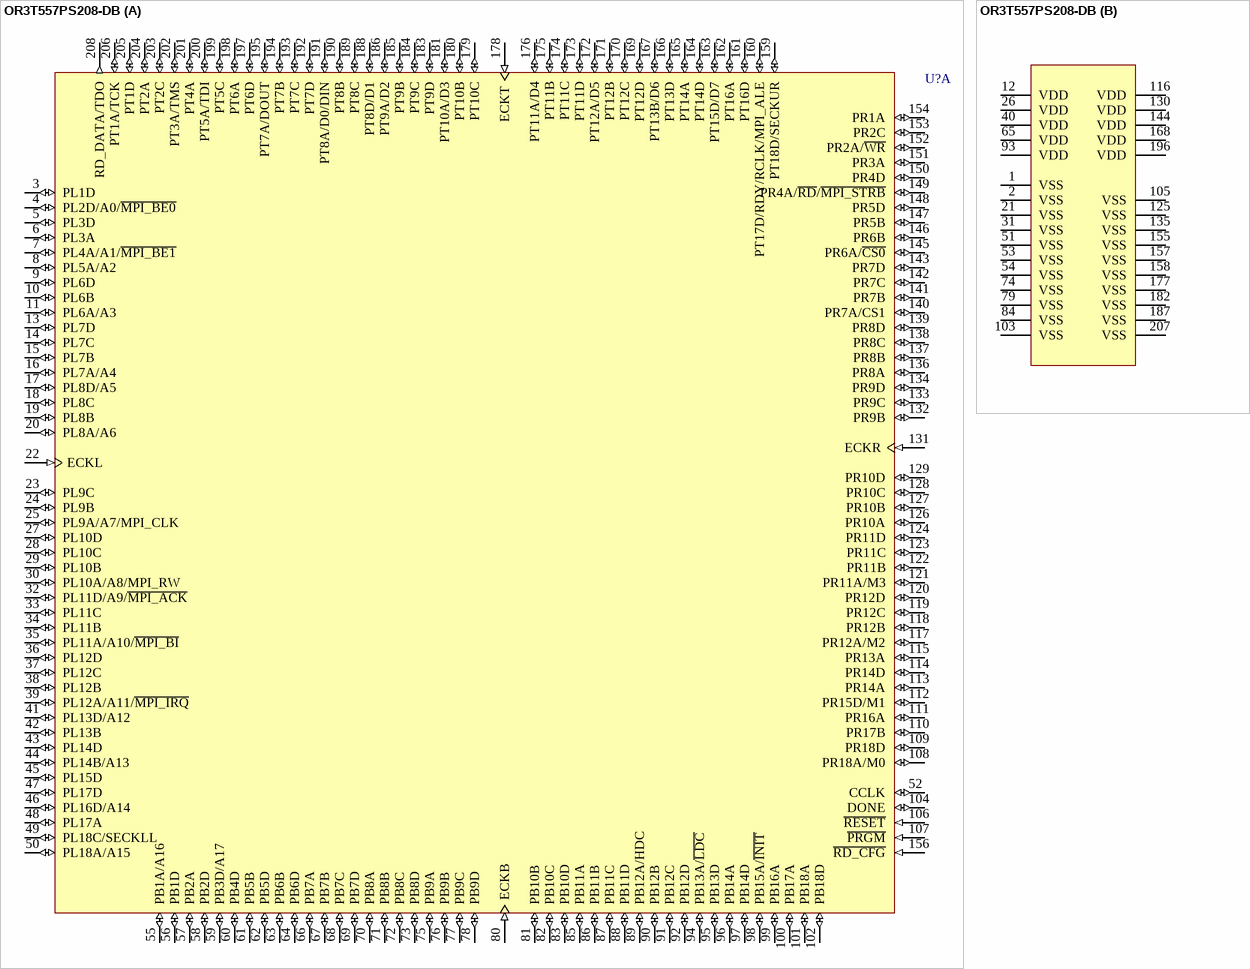
[diagram p94: symbol OR3T557PS208-DB]